# Altium schematic symbol library 3.7 - MSP430系列单片机.SchLib: 80 symbols (part 1 of 2)
Pins are listed as number, name and electrical type; pins without a type are passive.

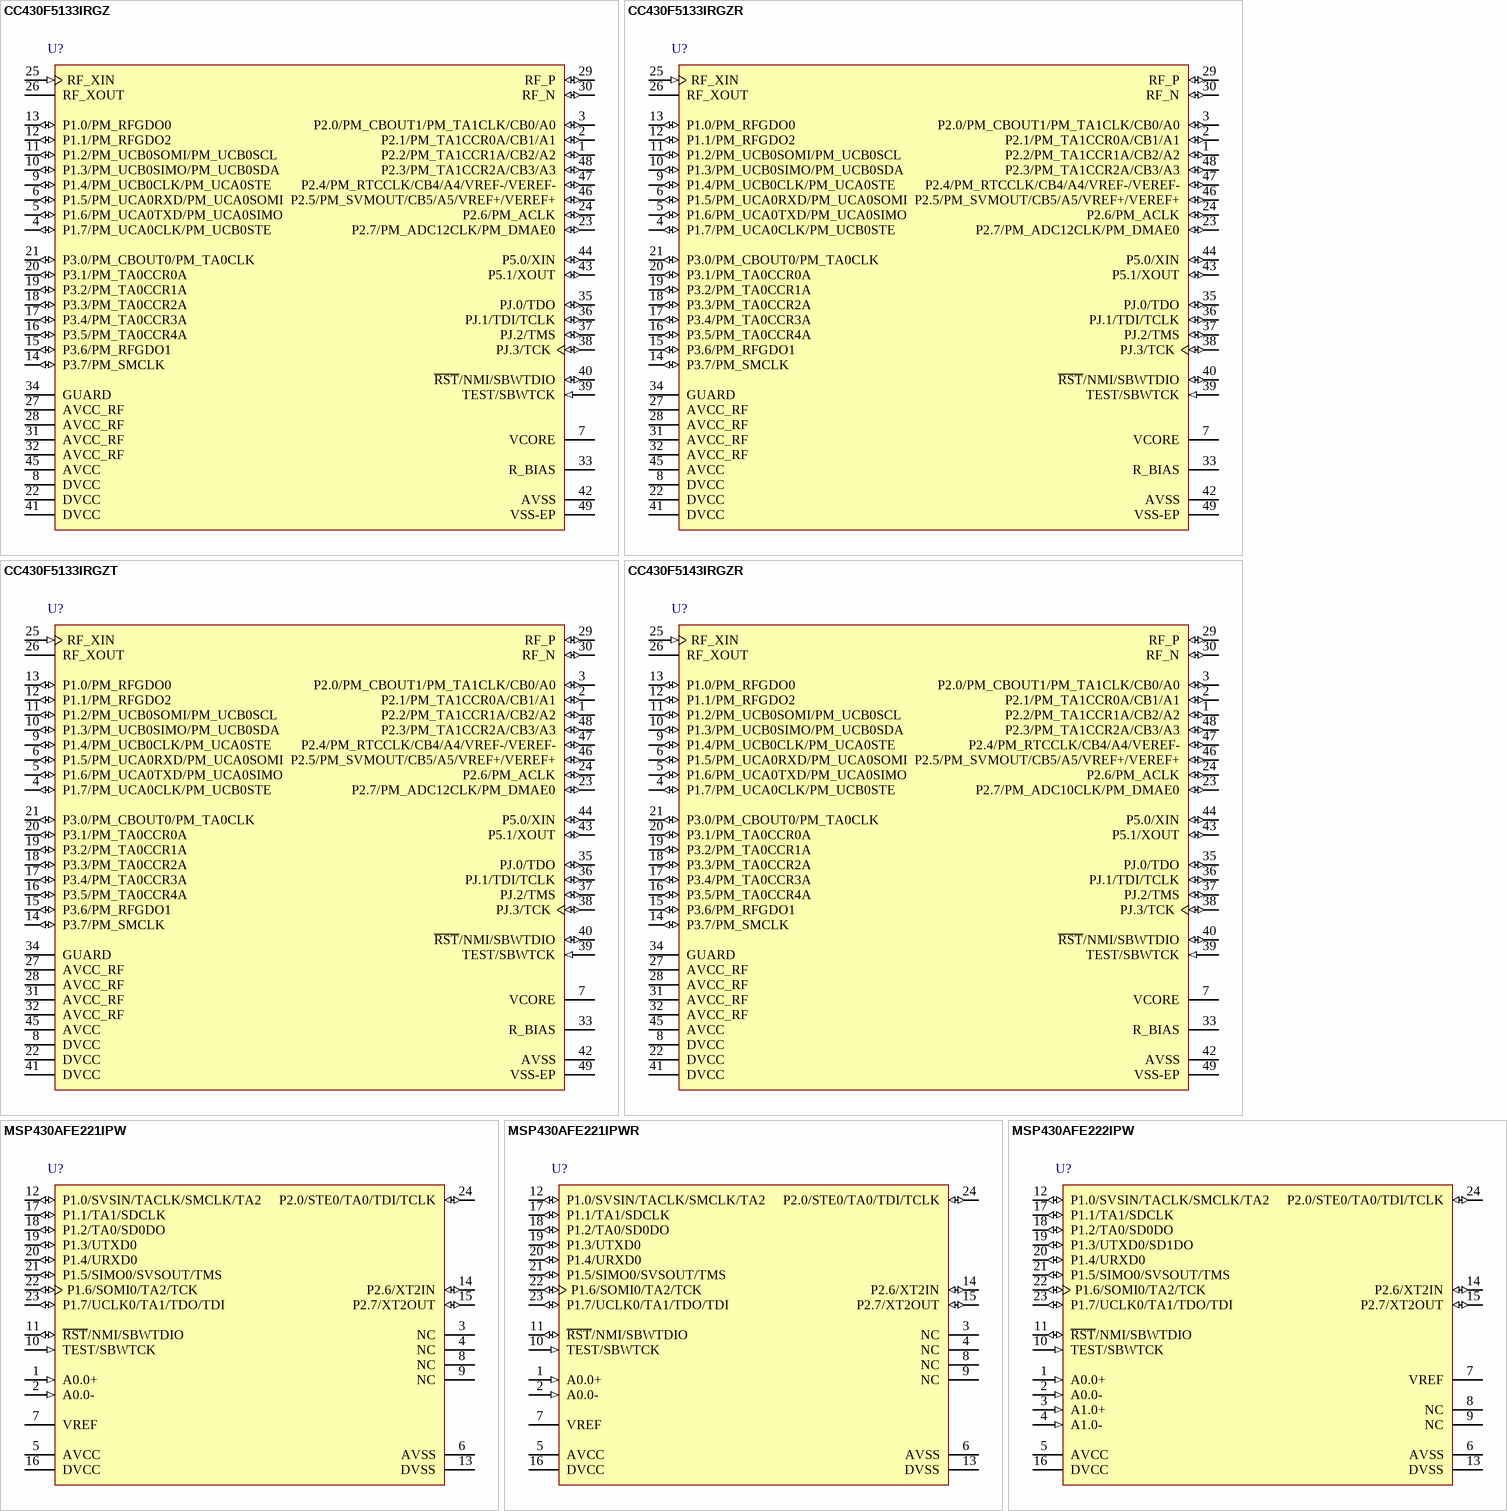
[diagram p0: symbols CC430F5133IRGZ to MSP430AFE222IPW]

## CC430F5133IRGZ
designator U?
20 MHz MSP430 SoC with RF Core with 8 KB Flash, 2048 B SRAM and 30 GPIOs, -40 to 85 degC, 48-pin QFN (RGZ), Green (RoHS & no Sb/Br); 1.库作者: 冰凌猫; 2.库版本: v2.0 (2021.03.30); 3.交流分享: Q群514746572,开源更新,欢迎一起交流学习PCB设计; 4.作者声明: 旨为整合最全库集,欢迎转载,禁止商用！-冰凌猫; 5.备注说明: 该库已二次整合过网上各热销库,基本最全,无需重复搜购安装
footprint QFN48 7X7_N (48脚，长x宽x高：7x7x1mm，脚距：0.5mm)
pins: 1 P2.2/PM_TA1CCR1A/CB2/A2 (io), 2 P2.1/PM_TA1CCR0A/CB1/A1 (io), 3 P2.0/PM_CBOUT1/PM_TA1CLK/CB0/A0 (io), 4 P1.7/PM_UCA0CLK/PM_UCB0STE (io), 5 P1.6/PM_UCA0TXD/PM_UCA0SIMO (io), 6 P1.5/PM_UCA0RXD/PM_UCA0SOMI (io), 7 VCORE "Regulated core power supply", 8 DVCC (power) "Digital power supply", 9 P1.4/PM_UCB0CLK/PM_UCA0STE (io), 10 P1.3/PM_UCB0SIMO/PM_UCB0SDA (io), 11 P1.2/PM_UCB0SOMI/PM_UCB0SCL (io), 12 P1.1/PM_RFGDO2 (io), 13 P1.0/PM_RFGDO0 (io), 14 P3.7/PM_SMCLK (io), 15 P3.6/PM_RFGDO1 (io), 16 P3.5/PM_TA0CCR4A (io), 17 P3.4/PM_TA0CCR3A (io), 18 P3.3/PM_TA0CCR2A (io), 19 P3.2/PM_TA0CCR1A (io), 20 P3.1/PM_TA0CCR0A (io), 21 P3.0/PM_CBOUT0/PM_TA0CLK (io), 22 DVCC (power) "Digital power supply", 23 P2.7/PM_ADC12CLK/PM_DMAE0 (io), 24 P2.6/PM_ACLK (io), 25 RF_XIN (in) "Input terminal for RF crystal oscillator, or external clock input", 26 RF_XOUT "Output terminal for RF crystal oscillator", 27 AVCC_RF (power) "Radio analog power supply", 28 AVCC_RF (power) "Radio analog power supply", 29 RF_P (io) "Positive RF input to LNA in receive mode Positive RF output from PA in transmit mode", 30 RF_N (io) "Negative RF input to LNA in receive mode Negative RF output from PA in transmit mode", 31 AVCC_RF (power) "Radio analog power supply", 32 AVCC_RF (power) "Radio analog power supply", 33 R_BIAS "External bias resistor for radio reference current", 34 GUARD (power) "Power supply connection for digital noise isolation", 35 PJ.0/TDO (io), 36 PJ.1/TDI/TCLK (io), 37 PJ.2/TMS (io), 38 PJ.3/TCK (io), 39 TEST/SBWTCK (in), 40 ~{RST}/NMI/SBWTDIO (io), 41 DVCC (power) "Digital power supply", 42 AVSS (power) "Analog ground supply for ADC12", 43 P5.1/XOUT (io), 44 P5.0/XIN (io), 45 AVCC (power) "Analog power supply", 46 P2.5/PM_SVMOUT/CB5/A5/VREF+/VEREF+ (io), 47 P2.4/PM_RTCCLK/CB4/A4/VREF-/VEREF- (io), 48 P2.3/PM_TA1CCR2A/CB3/A3 (io), 49 VSS-EP (power) "Ground supply The exposed die attach pad must be connected to a solid ground plane as this is the ground connection for the chip."

## CC430F5133IRGZR
designator U?
20 MHz MSP430 SoC with RF Core with 8 KB Flash, 2048 B SRAM and 30 GPIOs, -40 to 85 degC, 48-pin QFN (RGZ), Green (RoHS & no Sb/Br); 1.库作者: 冰凌猫; 2.库版本: v2.0 (2021.03.30); 3.交流分享: Q群514746572,开源更新,欢迎一起交流学习PCB设计; 4.作者声明: 旨为整合最全库集,欢迎转载,禁止商用！-冰凌猫; 5.备注说明: 该库已二次整合过网上各热销库,基本最全,无需重复搜购安装
footprint QFN48 7X7_N (48脚，长x宽x高：7x7x1mm，脚距：0.5mm)
pins: 1 P2.2/PM_TA1CCR1A/CB2/A2 (io), 2 P2.1/PM_TA1CCR0A/CB1/A1 (io), 3 P2.0/PM_CBOUT1/PM_TA1CLK/CB0/A0 (io), 4 P1.7/PM_UCA0CLK/PM_UCB0STE (io), 5 P1.6/PM_UCA0TXD/PM_UCA0SIMO (io), 6 P1.5/PM_UCA0RXD/PM_UCA0SOMI (io), 7 VCORE "Regulated core power supply", 8 DVCC (power) "Digital power supply", 9 P1.4/PM_UCB0CLK/PM_UCA0STE (io), 10 P1.3/PM_UCB0SIMO/PM_UCB0SDA (io), 11 P1.2/PM_UCB0SOMI/PM_UCB0SCL (io), 12 P1.1/PM_RFGDO2 (io), 13 P1.0/PM_RFGDO0 (io), 14 P3.7/PM_SMCLK (io), 15 P3.6/PM_RFGDO1 (io), 16 P3.5/PM_TA0CCR4A (io), 17 P3.4/PM_TA0CCR3A (io), 18 P3.3/PM_TA0CCR2A (io), 19 P3.2/PM_TA0CCR1A (io), 20 P3.1/PM_TA0CCR0A (io), 21 P3.0/PM_CBOUT0/PM_TA0CLK (io), 22 DVCC (power) "Digital power supply", 23 P2.7/PM_ADC12CLK/PM_DMAE0 (io), 24 P2.6/PM_ACLK (io), 25 RF_XIN (in) "Input terminal for RF crystal oscillator, or external clock input", 26 RF_XOUT "Output terminal for RF crystal oscillator", 27 AVCC_RF (power) "Radio analog power supply", 28 AVCC_RF (power) "Radio analog power supply", 29 RF_P (io) "Positive RF input to LNA in receive mode Positive RF output from PA in transmit mode", 30 RF_N (io) "Negative RF input to LNA in receive mode Negative RF output from PA in transmit mode", 31 AVCC_RF (power) "Radio analog power supply", 32 AVCC_RF (power) "Radio analog power supply", 33 R_BIAS "External bias resistor for radio reference current", 34 GUARD (power) "Power supply connection for digital noise isolation", 35 PJ.0/TDO (io), 36 PJ.1/TDI/TCLK (io), 37 PJ.2/TMS (io), 38 PJ.3/TCK (io), 39 TEST/SBWTCK (in), 40 ~{RST}/NMI/SBWTDIO (io), 41 DVCC (power) "Digital power supply", 42 AVSS (power) "Analog ground supply for ADC12", 43 P5.1/XOUT (io), 44 P5.0/XIN (io), 45 AVCC (power) "Analog power supply", 46 P2.5/PM_SVMOUT/CB5/A5/VREF+/VEREF+ (io), 47 P2.4/PM_RTCCLK/CB4/A4/VREF-/VEREF- (io), 48 P2.3/PM_TA1CCR2A/CB3/A3 (io), 49 VSS-EP (power) "Ground supply The exposed die attach pad must be connected to a solid ground plane as this is the ground connection for the chip."

## CC430F5133IRGZT
designator U?
20 MHz MSP430 SoC with RF Core with 8 KB Flash, 2048 B SRAM and 30 GPIOs, -40 to 85 degC, 48-pin QFN (RGZ), Green (RoHS & no Sb/Br); 1.库作者: 冰凌猫; 2.库版本: v2.0 (2021.03.30); 3.交流分享: Q群514746572,开源更新,欢迎一起交流学习PCB设计; 4.作者声明: 旨为整合最全库集,欢迎转载,禁止商用！-冰凌猫; 5.备注说明: 该库已二次整合过网上各热销库,基本最全,无需重复搜购安装
footprint QFN48 7X7_N (48脚，长x宽x高：7x7x1mm，脚距：0.5mm)
pins: 1 P2.2/PM_TA1CCR1A/CB2/A2 (io), 2 P2.1/PM_TA1CCR0A/CB1/A1 (io), 3 P2.0/PM_CBOUT1/PM_TA1CLK/CB0/A0 (io), 4 P1.7/PM_UCA0CLK/PM_UCB0STE (io), 5 P1.6/PM_UCA0TXD/PM_UCA0SIMO (io), 6 P1.5/PM_UCA0RXD/PM_UCA0SOMI (io), 7 VCORE "Regulated core power supply", 8 DVCC (power) "Digital power supply", 9 P1.4/PM_UCB0CLK/PM_UCA0STE (io), 10 P1.3/PM_UCB0SIMO/PM_UCB0SDA (io), 11 P1.2/PM_UCB0SOMI/PM_UCB0SCL (io), 12 P1.1/PM_RFGDO2 (io), 13 P1.0/PM_RFGDO0 (io), 14 P3.7/PM_SMCLK (io), 15 P3.6/PM_RFGDO1 (io), 16 P3.5/PM_TA0CCR4A (io), 17 P3.4/PM_TA0CCR3A (io), 18 P3.3/PM_TA0CCR2A (io), 19 P3.2/PM_TA0CCR1A (io), 20 P3.1/PM_TA0CCR0A (io), 21 P3.0/PM_CBOUT0/PM_TA0CLK (io), 22 DVCC (power) "Digital power supply", 23 P2.7/PM_ADC12CLK/PM_DMAE0 (io), 24 P2.6/PM_ACLK (io), 25 RF_XIN (in) "Input terminal for RF crystal oscillator, or external clock input", 26 RF_XOUT "Output terminal for RF crystal oscillator", 27 AVCC_RF (power) "Radio analog power supply", 28 AVCC_RF (power) "Radio analog power supply", 29 RF_P (io) "Positive RF input to LNA in receive mode Positive RF output from PA in transmit mode", 30 RF_N (io) "Negative RF input to LNA in receive mode Negative RF output from PA in transmit mode", 31 AVCC_RF (power) "Radio analog power supply", 32 AVCC_RF (power) "Radio analog power supply", 33 R_BIAS "External bias resistor for radio reference current", 34 GUARD (power) "Power supply connection for digital noise isolation", 35 PJ.0/TDO (io), 36 PJ.1/TDI/TCLK (io), 37 PJ.2/TMS (io), 38 PJ.3/TCK (io), 39 TEST/SBWTCK (in), 40 ~{RST}/NMI/SBWTDIO (io), 41 DVCC (power) "Digital power supply", 42 AVSS (power) "Analog ground supply for ADC12", 43 P5.1/XOUT (io), 44 P5.0/XIN (io), 45 AVCC (power) "Analog power supply", 46 P2.5/PM_SVMOUT/CB5/A5/VREF+/VEREF+ (io), 47 P2.4/PM_RTCCLK/CB4/A4/VREF-/VEREF- (io), 48 P2.3/PM_TA1CCR2A/CB3/A3 (io), 49 VSS-EP (power) "Ground supply The exposed die attach pad must be connected to a solid ground plane as this is the ground connection for the chip."

## CC430F5143IRGZR
designator U?
20 MHz MSP430 SoC with RF Core with 8 KB Flash, 2048 B SRAM and 30 GPIOs, -40 to 85 degC, 48-pin QFN (RGZ), Green (RoHS & no Sb/Br); 1.库作者: 冰凌猫; 2.库版本: v2.0 (2021.03.30); 3.交流分享: Q群514746572,开源更新,欢迎一起交流学习PCB设计; 4.作者声明: 旨为整合最全库集,欢迎转载,禁止商用！-冰凌猫; 5.备注说明: 该库已二次整合过网上各热销库,基本最全,无需重复搜购安装
footprint QFN48 7X7_N (48脚，长x宽x高：7x7x1mm，脚距：0.5mm)
pins: 1 P2.2/PM_TA1CCR1A/CB2/A2 (io), 2 P2.1/PM_TA1CCR0A/CB1/A1 (io), 3 P2.0/PM_CBOUT1/PM_TA1CLK/CB0/A0 (io), 4 P1.7/PM_UCA0CLK/PM_UCB0STE (io), 5 P1.6/PM_UCA0TXD/PM_UCA0SIMO (io), 6 P1.5/PM_UCA0RXD/PM_UCA0SOMI (io), 7 VCORE "Regulated core power supply", 8 DVCC (power) "Digital power supply", 9 P1.4/PM_UCB0CLK/PM_UCA0STE (io), 10 P1.3/PM_UCB0SIMO/PM_UCB0SDA (io), 11 P1.2/PM_UCB0SOMI/PM_UCB0SCL (io), 12 P1.1/PM_RFGDO2 (io), 13 P1.0/PM_RFGDO0 (io), 14 P3.7/PM_SMCLK (io), 15 P3.6/PM_RFGDO1 (io), 16 P3.5/PM_TA0CCR4A (io), 17 P3.4/PM_TA0CCR3A (io), 18 P3.3/PM_TA0CCR2A (io), 19 P3.2/PM_TA0CCR1A (io), 20 P3.1/PM_TA0CCR0A (io), 21 P3.0/PM_CBOUT0/PM_TA0CLK (io), 22 DVCC (power) "Digital power supply", 23 P2.7/PM_ADC10CLK/PM_DMAE0 (io), 24 P2.6/PM_ACLK (io), 25 RF_XIN (in) "Input terminal for RF crystal oscillator, or external clock input", 26 RF_XOUT "Output terminal for RF crystal oscillator", 27 AVCC_RF (power) "Radio analog power supply", 28 AVCC_RF (power) "Radio analog power supply", 29 RF_P (io) "Positive RF input to LNA in receive mode Positive RF output from PA in transmit mode", 30 RF_N (io) "Negative RF input to LNA in receive mode Negative RF output from PA in transmit mode", 31 AVCC_RF (power) "Radio analog power supply", 32 AVCC_RF (power) "Radio analog power supply", 33 R_BIAS "External bias resistor for radio reference current", 34 GUARD (power) "Power supply connection for digital noise isolation", 35 PJ.0/TDO (io), 36 PJ.1/TDI/TCLK (io), 37 PJ.2/TMS (io), 38 PJ.3/TCK (io), 39 TEST/SBWTCK (in), 40 ~{RST}/NMI/SBWTDIO (io), 41 DVCC (power) "Digital power supply", 42 AVSS (power) "Analog ground supply for ADC10", 43 P5.1/XOUT (io), 44 P5.0/XIN (io), 45 AVCC (power) "Analog power supply", 46 P2.5/PM_SVMOUT/CB5/A5/VREF+/VEREF+ (io), 47 P2.4/PM_RTCCLK/CB4/A4/VEREF- (io), 48 P2.3/PM_TA1CCR2A/CB3/A3 (io), 49 VSS-EP "Ground supply The exposed die attach pad must be connected to a solid ground plane as this is the ground connection for the chip."

## MSP430AFE221IPW
designator U?
12 MHz Mixed Signal Microcontroller with 4 KB Flash, 256 B SRAM and 11 GPIOs, 24-pin SOP (PW), Green (RoHS & no Sb/Br); 1.库作者: 冰凌猫; 2.库版本: v2.0 (2021.03.30); 3.交流分享: Q群514746572,开源更新,欢迎一起交流学习PCB设计; 4.作者声明: 旨为整合最全库集,欢迎转载,禁止商用！-冰凌猫; 5.备注说明: 该库已二次整合过网上各热销库,基本最全,无需重复搜购安装
footprint TSSOP-24 (7.80x4.40x1.00 e=0.65)
pins: 1 A0.0+ (in) "SD24_A positive analog input A0.0", 2 A0.0- (in) "SD24_A negative analog input A0.0", 3 NC "Connect NC pins to analog ground (AVSS)", 4 NC "Connect NC pins to analog ground (AVSS)", 5 AVCC (power) "Analog supply voltage, positive terminal. Must not power up prior to DVCC.", 6 AVSS (power) "Analog supply voltage, negative terminal", 7 VREF "Input for an external reference voltage/ output for internal reference voltage (can be used as mid-voltage)", 8 NC "Connect NC pins to analog ground (AVSS)", 9 NC "Connect NC pins to analog ground (AVSS)", 10 TEST/SBWTCK (in), 11 ~{RST}/NMI/SBWTDIO (io), 12 P1.0/SVSIN/TACLK/SMCLK/TA2 (io), 13 DVSS (power) "Digital supply voltage, negative terminal", 14 P2.6/XT2IN (io), 15 P2.7/XT2OUT (io), 16 DVCC (power) "Digital supply voltage, positive terminal.", 17 P1.1/TA1/SDCLK (io), 18 P1.2/TA0/SD0DO (io), 19 P1.3/UTXD0 (io), 20 P1.4/URXD0 (io), 21 P1.5/SIMO0/SVSOUT/TMS (io), 22 P1.6/SOMI0/TA2/TCK (io), 23 P1.7/UCLK0/TA1/TDO/TDI (io), 24 P2.0/STE0/TA0/TDI/TCLK (io)

## MSP430AFE221IPWR
designator U?
12 MHz Mixed Signal Microcontroller with 4 KB Flash, 256 B SRAM and 11 GPIOs, 24-pin SOP (PW), Green (RoHS & no Sb/Br); 1.库作者: 冰凌猫; 2.库版本: v2.0 (2021.03.30); 3.交流分享: Q群514746572,开源更新,欢迎一起交流学习PCB设计; 4.作者声明: 旨为整合最全库集,欢迎转载,禁止商用！-冰凌猫; 5.备注说明: 该库已二次整合过网上各热销库,基本最全,无需重复搜购安装
footprint TSSOP-24 (7.80x4.40x1.00 e=0.65)
pins: 1 A0.0+ (in) "SD24_A positive analog input A0.0", 2 A0.0- (in) "SD24_A negative analog input A0.0", 3 NC "Connect NC pins to analog ground (AVSS)", 4 NC "Connect NC pins to analog ground (AVSS)", 5 AVCC (power) "Analog supply voltage, positive terminal. Must not power up prior to DVCC.", 6 AVSS (power) "Analog supply voltage, negative terminal", 7 VREF "Input for an external reference voltage/ output for internal reference voltage (can be used as mid-voltage)", 8 NC "Connect NC pins to analog ground (AVSS)", 9 NC "Connect NC pins to analog ground (AVSS)", 10 TEST/SBWTCK (in), 11 ~{RST}/NMI/SBWTDIO (io), 12 P1.0/SVSIN/TACLK/SMCLK/TA2 (io), 13 DVSS (power) "Digital supply voltage, negative terminal", 14 P2.6/XT2IN (io), 15 P2.7/XT2OUT (io), 16 DVCC (power) "Digital supply voltage, positive terminal.", 17 P1.1/TA1/SDCLK (io), 18 P1.2/TA0/SD0DO (io), 19 P1.3/UTXD0 (io), 20 P1.4/URXD0 (io), 21 P1.5/SIMO0/SVSOUT/TMS (io), 22 P1.6/SOMI0/TA2/TCK (io), 23 P1.7/UCLK0/TA1/TDO/TDI (io), 24 P2.0/STE0/TA0/TDI/TCLK (io)

## MSP430AFE222IPW
designator U?
12 MHz Mixed Signal Microcontroller with 4 KB Flash, 256 B SRAM and 11 GPIOs, 24-pin SOP (PW), Green (RoHS & no Sb/Br); 1.库作者: 冰凌猫; 2.库版本: v2.0 (2021.03.30); 3.交流分享: Q群514746572,开源更新,欢迎一起交流学习PCB设计; 4.作者声明: 旨为整合最全库集,欢迎转载,禁止商用！-冰凌猫; 5.备注说明: 该库已二次整合过网上各热销库,基本最全,无需重复搜购安装
footprint TSSOP-24 (7.80x4.40x1.00 e=0.65)
pins: 1 A0.0+ (in) "SD24_A positive analog input A0.0", 2 A0.0- (in) "SD24_A negative analog input A0.0", 3 A1.0+ (in) "SD24_A positive analog input A1.0", 4 A1.0- (in) "SD24_A negative analog input A1.0", 5 AVCC (power) "Analog supply voltage, positive terminal. Must not power up prior to DVCC", 6 AVSS (power) "Analog supply voltage, negative terminal", 7 VREF "Input for an external reference voltage/ output for internal reference voltage (can be used as mid-voltage)", 8 NC, 9 NC, 10 TEST/SBWTCK (in), 11 ~{RST}/NMI/SBWTDIO (io), 12 P1.0/SVSIN/TACLK/SMCLK/TA2 (io), 13 DVSS (power) "Digital supply voltage, negative terminal", 14 P2.6/XT2IN (io), 15 P2.7/XT2OUT (io), 16 DVCC (power) "Digital supply voltage, positive terminal.", 17 P1.1/TA1/SDCLK (io), 18 P1.2/TA0/SD0DO (io), 19 P1.3/UTXD0/SD1DO (io), 20 P1.4/URXD0 (io), 21 P1.5/SIMO0/SVSOUT/TMS (io), 22 P1.6/SOMI0/TA2/TCK (io), 23 P1.7/UCLK0/TA1/TDO/TDI (io), 24 P2.0/STE0/TA0/TDI/TCLK (io)

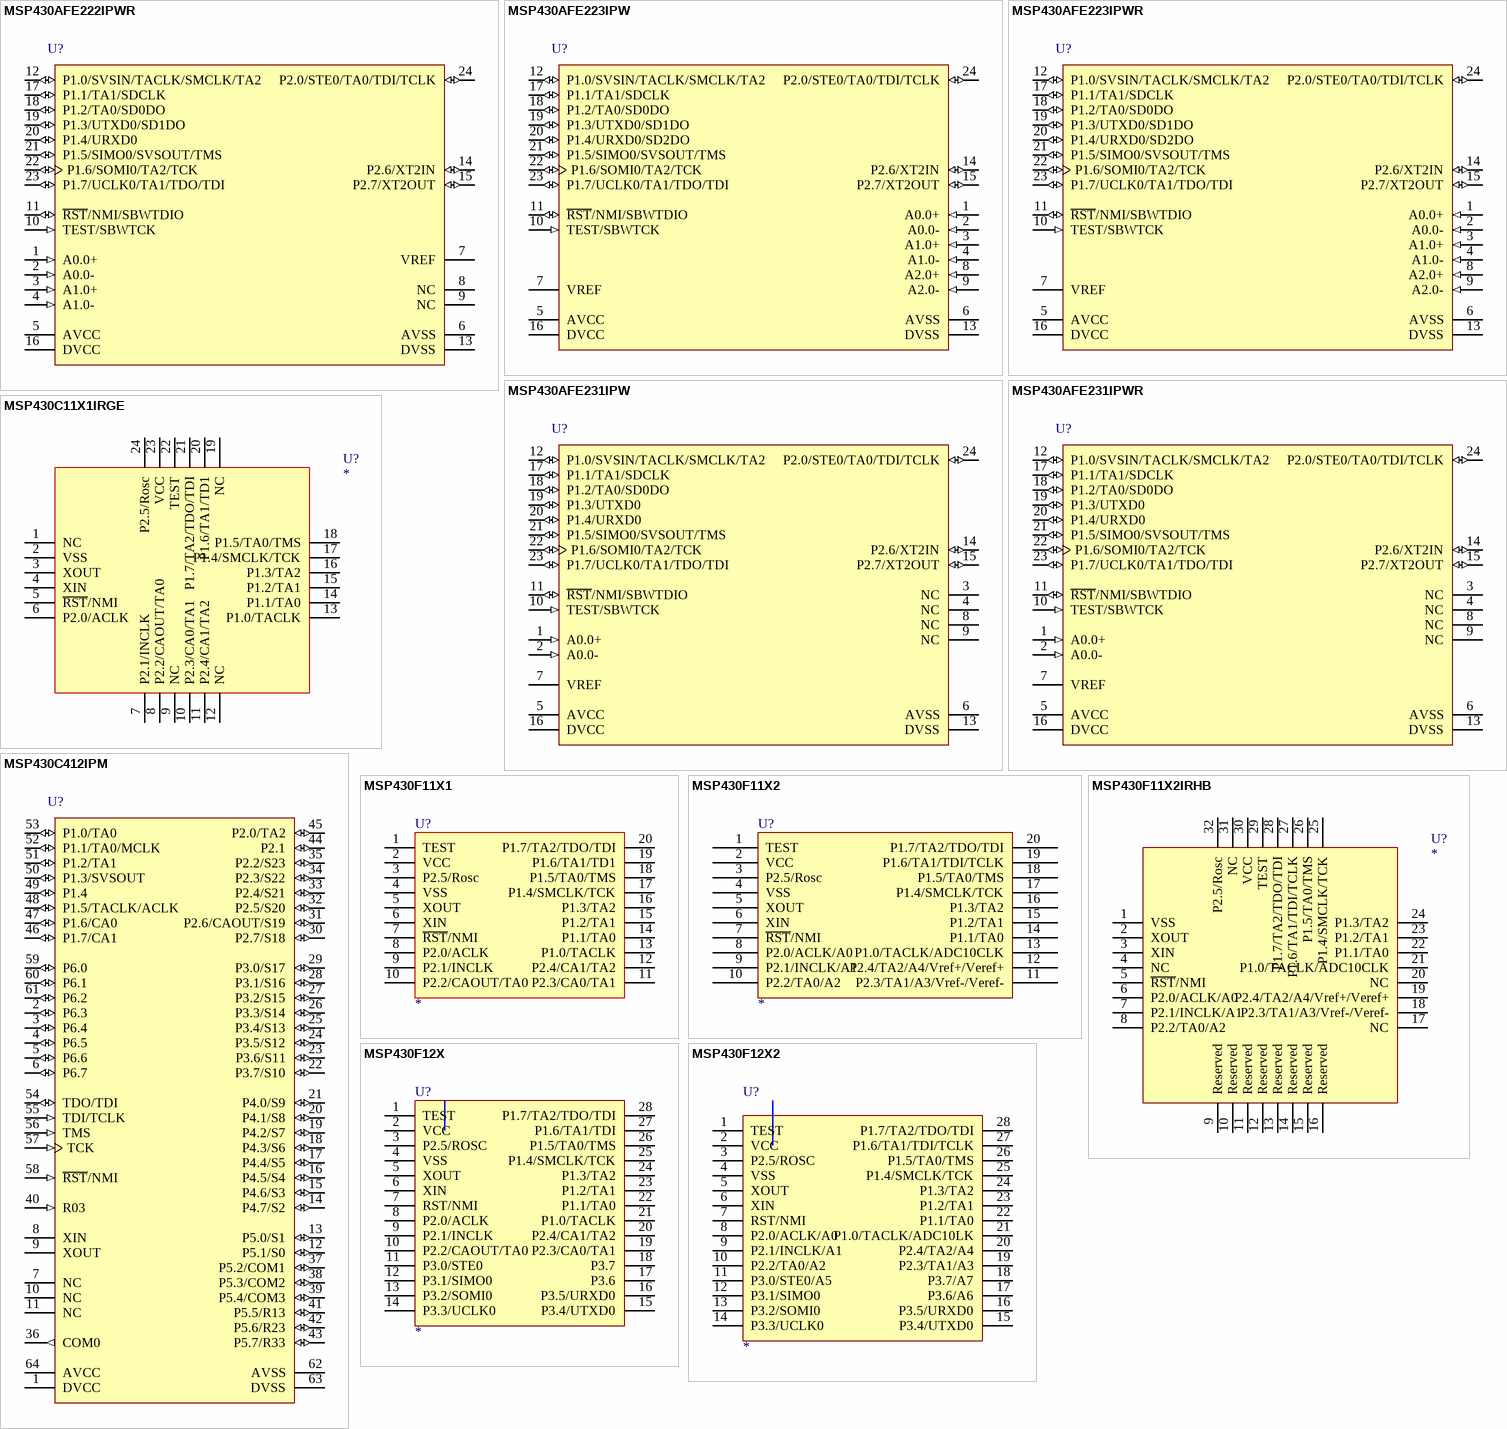
[diagram p1: symbols MSP430AFE222IPWR to MSP430F12X2]

## MSP430AFE222IPWR
designator U?
12 MHz Mixed Signal Microcontroller with 4 KB Flash, 256 B SRAM and 11 GPIOs, 24-pin SOP (PW), Green (RoHS & no Sb/Br); 1.库作者: 冰凌猫; 2.库版本: v2.0 (2021.03.30); 3.交流分享: Q群514746572,开源更新,欢迎一起交流学习PCB设计; 4.作者声明: 旨为整合最全库集,欢迎转载,禁止商用！-冰凌猫; 5.备注说明: 该库已二次整合过网上各热销库,基本最全,无需重复搜购安装
footprint TSSOP-24 (7.80x4.40x1.00 e=0.65)
pins: 1 A0.0+ (in) "SD24_A positive analog input A0.0", 2 A0.0- (in) "SD24_A negative analog input A0.0", 3 A1.0+ (in) "SD24_A positive analog input A1.0", 4 A1.0- (in) "SD24_A negative analog input A1.0", 5 AVCC (power) "Analog supply voltage, positive terminal. Must not power up prior to DVCC", 6 AVSS (power) "Analog supply voltage, negative terminal", 7 VREF "Input for an external reference voltage/ output for internal reference voltage (can be used as mid-voltage)", 8 NC, 9 NC, 10 TEST/SBWTCK (in), 11 ~{RST}/NMI/SBWTDIO (io), 12 P1.0/SVSIN/TACLK/SMCLK/TA2 (io), 13 DVSS (power) "Digital supply voltage, negative terminal", 14 P2.6/XT2IN (io), 15 P2.7/XT2OUT (io), 16 DVCC (power) "Digital supply voltage, positive terminal.", 17 P1.1/TA1/SDCLK (io), 18 P1.2/TA0/SD0DO (io), 19 P1.3/UTXD0/SD1DO (io), 20 P1.4/URXD0 (io), 21 P1.5/SIMO0/SVSOUT/TMS (io), 22 P1.6/SOMI0/TA2/TCK (io), 23 P1.7/UCLK0/TA1/TDO/TDI (io), 24 P2.0/STE0/TA0/TDI/TCLK (io)

## MSP430AFE223IPW
designator U?
12 MHz Mixed Signal Microcontroller with 4 KB Flash, 256 B SRAM and 11 GPIOs, 24-pin SOP (PW), Green (RoHS & no Sb/Br); 1.库作者: 冰凌猫; 2.库版本: v2.0 (2021.03.30); 3.交流分享: Q群514746572,开源更新,欢迎一起交流学习PCB设计; 4.作者声明: 旨为整合最全库集,欢迎转载,禁止商用！-冰凌猫; 5.备注说明: 该库已二次整合过网上各热销库,基本最全,无需重复搜购安装
footprint TSSOP-24 (7.80x4.40x1.00 e=0.65)
pins: 1 A0.0+ (in) "SD24_A positive analog input A0.0", 2 A0.0- (in) "SD24_A negative analog input A0.0", 3 A1.0+ (in) "SD24_A positive analog input A1.0 (not available on MSP430AFE2x1)", 4 A1.0- (in) "SD24_A negative analog input A1.0 (not available on MSP430AFE2x1)", 5 AVCC (power) "Analog supply voltage, positive terminal. Must not power up prior to DVCC.", 6 AVSS (power) "Analog supply voltage, negative terminal", 7 VREF "Input for an external reference voltage/ output for internal reference voltage (can be used as mid-voltage)", 8 A2.0+ (in) "SD24_A positive analog input A2.0 (not available on MSP430AFE2x2 and MSP430AFE2x1)", 9 A2.0- (in) "SD24_A negative analog input A2.0 (not available on MSP430AFE2x2 and MSP430AFE2x1)", 10 TEST/SBWTCK (in) "Digital supply voltage, negative terminal", 11 ~{RST}/NMI/SBWTDIO (io), 12 P1.0/SVSIN/TACLK/SMCLK/TA2 (io), 13 DVSS (power) "Digital supply voltage, negative terminal", 14 P2.6/XT2IN (io), 15 P2.7/XT2OUT (io), 16 DVCC (power) "Digital supply voltage, positive terminal.", 17 P1.1/TA1/SDCLK (io), 18 P1.2/TA0/SD0DO (io), 19 P1.3/UTXD0/SD1DO (io), 20 P1.4/URXD0/SD2DO (io), 21 P1.5/SIMO0/SVSOUT/TMS (io), 22 P1.6/SOMI0/TA2/TCK (io), 23 P1.7/UCLK0/TA1/TDO/TDI (io), 24 P2.0/STE0/TA0/TDI/TCLK (io) "Input for an external reference voltage/ output for internal reference voltage (can be used as mid-voltage)"

## MSP430AFE223IPWR
designator U?
12 MHz Mixed Signal Microcontroller with 4 KB Flash, 256 B SRAM and 11 GPIOs, 24-pin SOP (PW), Green (RoHS & no Sb/Br); 1.库作者: 冰凌猫; 2.库版本: v2.0 (2021.03.30); 3.交流分享: Q群514746572,开源更新,欢迎一起交流学习PCB设计; 4.作者声明: 旨为整合最全库集,欢迎转载,禁止商用！-冰凌猫; 5.备注说明: 该库已二次整合过网上各热销库,基本最全,无需重复搜购安装
footprint TSSOP-24 (7.80x4.40x1.00 e=0.65)
pins: 1 A0.0+ (in) "SD24_A positive analog input A0.0", 2 A0.0- (in) "SD24_A negative analog input A0.0", 3 A1.0+ (in) "SD24_A positive analog input A1.0 (not available on MSP430AFE2x1)", 4 A1.0- (in) "SD24_A negative analog input A1.0 (not available on MSP430AFE2x1)", 5 AVCC (power) "Analog supply voltage, positive terminal. Must not power up prior to DVCC.", 6 AVSS (power) "Analog supply voltage, negative terminal", 7 VREF "Input for an external reference voltage/ output for internal reference voltage (can be used as mid-voltage)", 8 A2.0+ (in) "SD24_A positive analog input A2.0 (not available on MSP430AFE2x2 and MSP430AFE2x1)", 9 A2.0- (in) "SD24_A negative analog input A2.0 (not available on MSP430AFE2x2 and MSP430AFE2x1)", 10 TEST/SBWTCK (in) "Digital supply voltage, negative terminal", 11 ~{RST}/NMI/SBWTDIO (io), 12 P1.0/SVSIN/TACLK/SMCLK/TA2 (io), 13 DVSS (power) "Digital supply voltage, negative terminal", 14 P2.6/XT2IN (io), 15 P2.7/XT2OUT (io), 16 DVCC (power) "Digital supply voltage, positive terminal.", 17 P1.1/TA1/SDCLK (io), 18 P1.2/TA0/SD0DO (io), 19 P1.3/UTXD0/SD1DO (io), 20 P1.4/URXD0/SD2DO (io), 21 P1.5/SIMO0/SVSOUT/TMS (io), 22 P1.6/SOMI0/TA2/TCK (io), 23 P1.7/UCLK0/TA1/TDO/TDI (io), 24 P2.0/STE0/TA0/TDI/TCLK (io) "Input for an external reference voltage/ output for internal reference voltage (can be used as mid-voltage)"

## MSP430AFE231IPW
designator U?
12 MHz Mixed Signal Microcontroller with 8 KB Flash, 512 B SRAM and 11 GPIOs, 24-pin SOP (PW), Green (RoHS & no Sb/Br); 1.库作者: 冰凌猫; 2.库版本: v2.0 (2021.03.30); 3.交流分享: Q群514746572,开源更新,欢迎一起交流学习PCB设计; 4.作者声明: 旨为整合最全库集,欢迎转载,禁止商用！-冰凌猫; 5.备注说明: 该库已二次整合过网上各热销库,基本最全,无需重复搜购安装
footprint TSSOP-24 (7.80x4.40x1.00 e=0.65)
pins: 1 A0.0+ (in) "SD24_A positive analog input A0.0", 2 A0.0- (in) "SD24_A negative analog input A0.0", 3 NC "Connect NC pins to analog ground (AVSS)", 4 NC "Connect NC pins to analog ground (AVSS)", 5 AVCC (power) "Analog supply voltage, positive terminal. Must not power up prior to DVCC.", 6 AVSS (power) "Analog supply voltage, negative terminal", 7 VREF "Input for an external reference voltage/ output for internal reference voltage (can be used as mid-voltage)", 8 NC "Connect NC pins to analog ground (AVSS)", 9 NC "Connect NC pins to analog ground (AVSS)", 10 TEST/SBWTCK (in), 11 ~{RST}/NMI/SBWTDIO (io), 12 P1.0/SVSIN/TACLK/SMCLK/TA2 (io), 13 DVSS (power) "Digital supply voltage, negative terminal", 14 P2.6/XT2IN (io), 15 P2.7/XT2OUT (io), 16 DVCC (power) "Digital supply voltage, positive terminal.", 17 P1.1/TA1/SDCLK (io), 18 P1.2/TA0/SD0DO (io), 19 P1.3/UTXD0 (io), 20 P1.4/URXD0 (io), 21 P1.5/SIMO0/SVSOUT/TMS (io), 22 P1.6/SOMI0/TA2/TCK (io), 23 P1.7/UCLK0/TA1/TDO/TDI (io), 24 P2.0/STE0/TA0/TDI/TCLK (io)

## MSP430AFE231IPWR
designator U?
12 MHz Mixed Signal Microcontroller with 8 KB Flash, 512 B SRAM and 11 GPIOs, 24-pin SOP (PW), Green (RoHS & no Sb/Br); 1.库作者: 冰凌猫; 2.库版本: v2.0 (2021.03.30); 3.交流分享: Q群514746572,开源更新,欢迎一起交流学习PCB设计; 4.作者声明: 旨为整合最全库集,欢迎转载,禁止商用！-冰凌猫; 5.备注说明: 该库已二次整合过网上各热销库,基本最全,无需重复搜购安装
footprint TSSOP-24 (7.80x4.40x1.00 e=0.65)
pins: 1 A0.0+ (in) "SD24_A positive analog input A0.0", 2 A0.0- (in) "SD24_A negative analog input A0.0", 3 NC "Connect NC pins to analog ground (AVSS)", 4 NC "Connect NC pins to analog ground (AVSS)", 5 AVCC (power) "Analog supply voltage, positive terminal. Must not power up prior to DVCC.", 6 AVSS (power) "Analog supply voltage, negative terminal", 7 VREF "Input for an external reference voltage/ output for internal reference voltage (can be used as mid-voltage)", 8 NC "Connect NC pins to analog ground (AVSS)", 9 NC "Connect NC pins to analog ground (AVSS)", 10 TEST/SBWTCK (in), 11 ~{RST}/NMI/SBWTDIO (io), 12 P1.0/SVSIN/TACLK/SMCLK/TA2 (io), 13 DVSS (power) "Digital supply voltage, negative terminal", 14 P2.6/XT2IN (io), 15 P2.7/XT2OUT (io), 16 DVCC (power) "Digital supply voltage, positive terminal.", 17 P1.1/TA1/SDCLK (io), 18 P1.2/TA0/SD0DO (io), 19 P1.3/UTXD0 (io), 20 P1.4/URXD0 (io), 21 P1.5/SIMO0/SVSOUT/TMS (io), 22 P1.6/SOMI0/TA2/TCK (io), 23 P1.7/UCLK0/TA1/TDO/TDI (io), 24 P2.0/STE0/TA0/TDI/TCLK (io)

## MSP430C11X1IRGE
designator U?
footprint QFN24
pins: 1 NC, 2 VSS (power), 3 XOUT (power), 4 XIN (power), 5 ~{RST}/NMI (power), 6 P2.0/ACLK (power), 7 P2.1/INCLK (power), 8 P2.2/CAOUT/TA0 (power), 9 NC, 10 P2.3/CA0/TA1 (power), 11 P2.4/CA1/TA2 (power), 12 NC, 13 P1.0/TACLK (power), 14 P1.1/TA0 (power), 15 P1.2/TA1 (power), 16 P1.3/TA2 (power), 17 P1.4/SMCLK/TCK (power), 18 P1.5/TA0/TMS (power), 19 NC, 20 P1.6/TA1/TD1 (power), 21 P1.7/TA2/TDO/TDI (power), 22 TEST, 23 VCC (power), 24 P2.5/Rosc (power)

## MSP430C412IPM
designator U?
8 MHz Mixed Signal Microcontroller with 4 KB Flash, 256 B SRAM and 48 GPIOs, -40 to 85 degC, 64-pin QFP (PM); 1.库作者: 冰凌猫; 2.库版本: v2.0 (2021.03.30); 3.交流分享: Q群514746572,开源更新,欢迎一起交流学习PCB设计; 4.作者声明: 旨为整合最全库集,欢迎转载,禁止商用！-冰凌猫; 5.备注说明: 该库已二次整合过网上各热销库,基本最全,无需重复搜购安装
footprint QFN64 9x9_N (64脚，长x宽x高：9x9x1mm，脚距：0.5mm  淘宝ID:黄晶宝石)
pins: 1 DVCC (power) "Digital supply voltage, positive terminal. Supplies all parts, except those which are supplied via AVCC.", 2 P6.3 (io) "General-purpose digital I/O", 3 P6.4 (io) "General-purpose digital I/O", 4 P6.5 (io) "General-purpose digital I/O", 5 P6.6 (io) "General-purpose digital I/O", 6 P6.7 (io) "General-purpose digital I/O", 7 NC "Not internally connected. Connection to VSS recommended.", 8 XIN "Input port for crystal oscillator XT1. Standard or watch crystals can be connected.", 9 XOUT "Output terminal of crystal oscillator XT1.", 10 NC "Not internally connected. Connection to VSS recommended.", 11 NC "Not internally connected. Connection to VSS recommended.", 12 P5.1/S0 (io), 13 P5.0/S1 (io), 14 P4.7/S2 (io), 15 P4.6/S3 (io), 16 P4.5/S4 (io), 17 P4.4/S5 (io), 18 P4.3/S6 (io), 19 P4.2/S7 (io), 20 P4.1/S8 (io), 21 P4.0/S9 (io), 22 P3.7/S10 (io), 23 P3.6/S11 (io), 24 P3.5/S12 (io), 25 P3.4/S13 (io), 26 P3.3/S14 (io), 27 P3.2/S15 (io), 28 P3.1/S16 (io), 29 P3.0/S17 (io), 30 P2.7/S18 (io), 31 P2.6/CAOUT/S19 (io), 32 P2.5/S20 (io), 33 P2.4/S21 (io), 34 P2.3/S22 (io), 35 P2.2/S23 (io), 36 COM0 (out) "Common output. COM0-3 are used for LCD backplanes", 37 P5.2/COM1 (io), 38 P5.3/COM2 (io), 39 P5.4/COM3 (io), 40 R03 (in) "Input port of fourth positive (lowest) analog LCD level (V5)", 41 P5.5/R13 (io), 42 P5.6/R23 (io), 43 P5.7/R33 (io), 44 P2.1 (io) "General-purpose digital I/O", 45 P2.0/TA2 (io), 46 P1.7/CA1 (io), 47 P1.6/CA0 (io), 48 P1.5/TACLK/ACLK (io), 49 P1.4 (io) "General-purpose digital I/O", 50 P1.3/SVSOUT (io), 51 P1.2/TA1 (io), 52 P1.1/TA0/MCLK (io), 53 P1.0/TA0 (io), 54 TDO/TDI (io), 55 TDI/TCLK (in), 56 TMS (in) "Test mode select. TMS is used as an input port for device programming and test.", 57 TCK (in) "Test clock. TCK is the clock input port for device programming and test.", 58 ~{RST}/NMI (in), 59 P6.0 (io) "General-purpose digital I/O", 60 P6.1 (io) "General-purpose digital I/O", 61 P6.2 (io) "General-purpose digital I/O", 62 AVSS (power) "Negative terminal that supplies SVS, brownout, oscillator, comparator_A. Needs to be externally connected to DVSS.", 63 DVSS (power) "Digital supply voltage, negative terminal. Supplies all digital parts, except those which are supplied via AVCC/AVSS.", 64 AVCC (power) "Positive terminal that supplies SVS, brownout, oscillator, comparator_A, port 1, and LCD resistive divider circuitry; must not power up prior to DVCC."

## MSP430F11X1
designator U?
footprint R-PDSO-G20(PW)
footprint R-PDSO-G20(DW)
footprint R-PDSO-G20(DGV)
pins: 1 TEST, 2 VCC (power), 3 P2.5/Rosc (power), 4 VSS (power), 5 XOUT (power), 6 XIN (power), 7 ~{RST}/NMI (power), 8 P2.0/ACLK (power), 9 P2.1/INCLK (power), 10 P2.2/CAOUT/TA0 (power), 11 P2.3/CA0/TA1 (power), 12 P2.4/CA1/TA2 (power), 13 P1.0/TACLK (power), 14 P1.1/TA0 (power), 15 P1.2/TA1 (power), 16 P1.3/TA2 (power), 17 P1.4/SMCLK/TCK (power), 18 P1.5/TA0/TMS (power), 19 P1.6/TA1/TD1 (power), 20 P1.7/TA2/TDO/TDI (power)

## MSP430F11X2
designator U?
footprint R-PDSO-G20(PW)
footprint R-PDSO-G20(DW)
footprint R-PDSO-G20(DGV)
pins: 1 TEST, 2 VCC (power), 3 P2.5/Rosc (power), 4 VSS (power), 5 XOUT (power), 6 XIN (power), 7 ~{RST}/NMI (power), 8 P2.0/ACLK/A0 (power), 9 P2.1/INCLK/A1 (power), 10 P2.2/TA0/A2 (power), 11 P2.3/TA1/A3/Vref-/Veref- (power), 12 P2.4/TA2/A4/Vref+/Veref+ (power), 13 P1.0/TACLK/ADC10CLK (power), 14 P1.1/TA0 (power), 15 P1.2/TA1 (power), 16 P1.3/TA2 (power), 17 P1.4/SMCLK/TCK (power), 18 P1.5/TA0/TMS (power), 19 P1.6/TA1/TDI/TCLK (power), 20 P1.7/TA2/TDO/TDI (power)

## MSP430F11X2IRHB
designator U?
footprint QFN32
pins: 1 VSS (power), 2 XOUT (power), 3 XIN (power), 4 NC, 5 ~{RST}/NMI (power), 6 P2.0/ACLK/A0 (power), 7 P2.1/INCLK/A1 (power), 8 P2.2/TA0/A2 (power), 9 Reserved, 10 Reserved, 11 Reserved, 12 Reserved, 13 Reserved, 14 Reserved, 15 Reserved, 16 Reserved, 17 NC, 18 P2.3/TA1/A3/Vref-/Veref- (power), 19 P2.4/TA2/A4/Vref+/Veref+ (power), 20 NC, 21 P1.0/TACLK/ADC10CLK (power), 22 P1.1/TA0 (power), 23 P1.2/TA1 (power), 24 P1.3/TA2 (power), 25 P1.4/SMCLK/TCK (power), 26 P1.5/TA0/TMS (power), 27 P1.6/TA1/TDI/TCLK (power), 28 P1.7/TA2/TDO/TDI (power), 29 TEST, 30 VCC (power), 31 NC, 32 P2.5/Rosc (power)

## MSP430F12X
designator U?
footprint R-PDSO-G28(PW)
footprint R-PDSO-G28(DW)
pins: 1 TEST, 2 VCC, 3 P2.5/ROSC, 4 VSS, 5 XOUT, 6 XIN, 7 RST/NMI, 8 P2.0/ACLK, 9 P2.1/INCLK, 10 P2.2/CAOUT/TA0, 11 P3.0/STE0, 12 P3.1/SIMO0, 13 P3.2/SOMI0, 14 P3.3/UCLK0, 15 P3.4/UTXD0, 16 P3.5/URXD0, 17 P3.6, 18 P3.7, 19 P2.3/CA0/TA1, 20 P2.4/CA1/TA2, 21 P1.0/TACLK, 22 P1.1/TA0, 23 P1.2/TA1, 24 P1.3/TA2, 25 P1.4/SMCLK/TCK, 26 P1.5/TA0/TMS, 27 P1.6/TA1/TDI, 28 P1.7/TA2/TDO/TDI

## MSP430F12X2
designator U?
footprint R-PDSO-G28(PW)
footprint R-PDSO-G28DW)
pins: 1 TEST, 2 VCC, 3 P2.5/ROSC, 4 VSS, 5 XOUT, 6 XIN, 7 RST/NMI, 8 P2.0/ACLK/A0, 9 P2.1/INCLK/A1, 10 P2.2/TA0/A2, 11 P3.0/STE0/A5, 12 P3.1/SIMO0, 13 P3.2/SOMI0, 14 P3.3/UCLK0, 15 P3.4/UTXD0, 16 P3.5/URXD0, 17 P3.6/A6, 18 P3.7/A7, 19 P2.3/TA1/A3, 20 P2.4/TA2/A4, 21 P1.0/TACLK/ADC10LK, 22 P1.1/TA0, 23 P1.2/TA1, 24 P1.3/TA2, 25 P1.4/SMCLK/TCK, 26 P1.5/TA0/TMS, 27 P1.6/TA1/TDI/TCLK, 28 P1.7/TA2/TDO/TDI

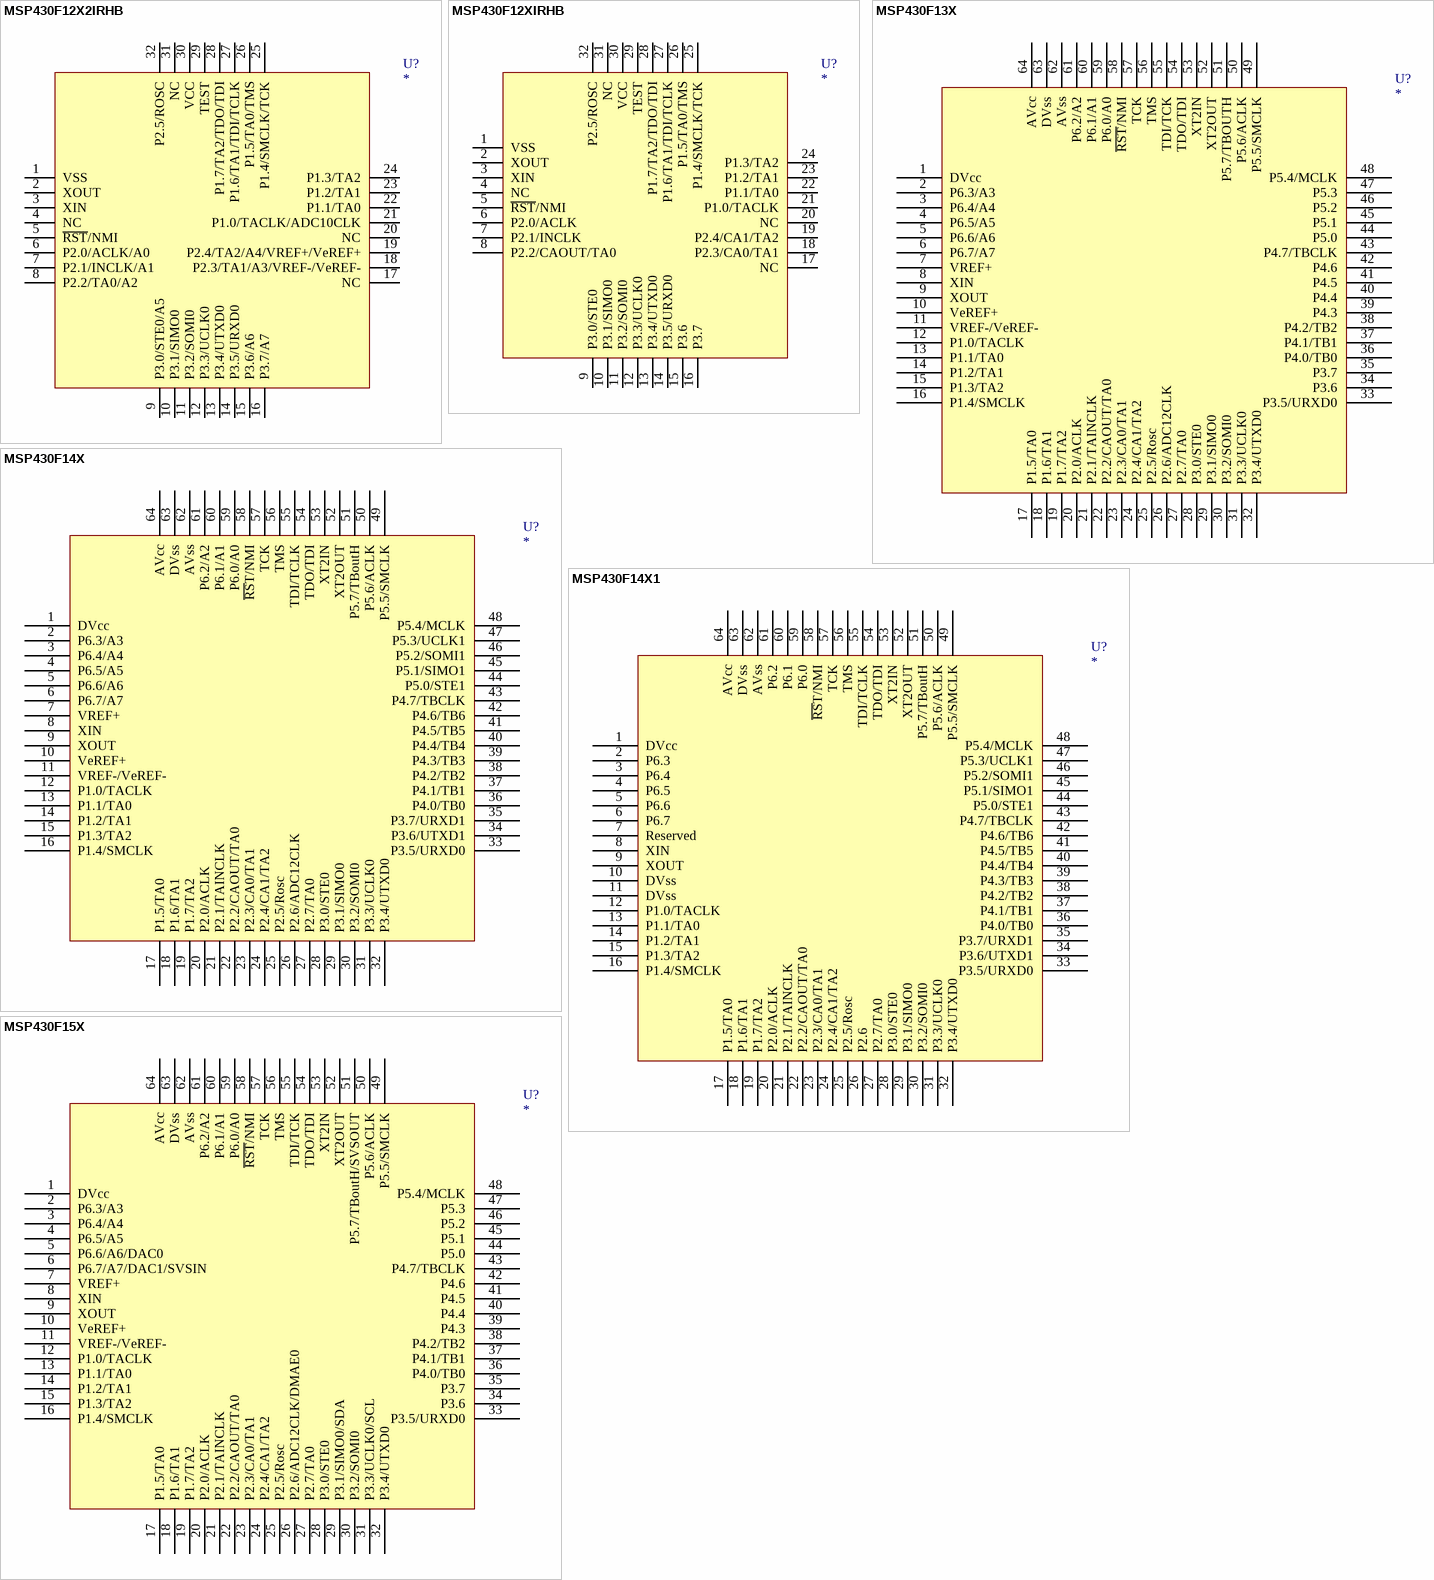
[diagram p2: symbols MSP430F12X2IRHB to MSP430F15X]

## MSP430F12X2IRHB
designator U?
footprint QFN32
pins: 1 VSS (power), 2 XOUT (power), 3 XIN (power), 4 NC (power), 5 ~{RST}/NMI (power), 6 P2.0/ACLK/A0 (power), 7 P2.1/INCLK/A1 (power), 8 P2.2/TA0/A2 (power), 9 P3.0/STE0/A5 (power), 10 P3.1/SIMO0 (power), 11 P3.2/SOMI0 (power), 12 P3.3/UCLK0 (power), 13 P3.4/UTXD0 (power), 14 P3.5/URXD0 (power), 15 P3.6/A6 (power), 16 P3.7/A7 (power), 17 NC (power), 18 P2.3/TA1/A3/VREF-/VeREF- (power), 19 P2.4/TA2/A4/VREF+/VeREF+ (power), 20 NC (power), 21 P1.0/TACLK/ADC10CLK (power), 22 P1.1/TA0 (power), 23 P1.2/TA1 (power), 24 P1.3/TA2 (power), 25 P1.4/SMCLK/TCK (power), 26 P1.5/TA0/TMS (power), 27 P1.6/TA1/TDI/TCLK (power), 28 P1.7/TA2/TDO/TDI (power), 29 TEST (power), 30 VCC (power), 31 NC (power), 32 P2.5/ROSC (power)

## MSP430F12XIRHB
designator U?
footprint QFN32
pins: 1 VSS (power), 2 XOUT (power), 3 XIN (power), 4 NC (power), 5 ~{RST}/NMI (power), 6 P2.0/ACLK (power), 7 P2.1/INCLK (power), 8 P2.2/CAOUT/TA0 (power), 9 P3.0/STE0 (power), 10 P3.1/SIMO0 (power), 11 P3.2/SOMI0 (power), 12 P3.3/UCLK0 (power), 13 P3.4/UTXD0 (power), 14 P3.5/URXD0 (power), 15 P3.6 (power), 16 P3.7 (power), 17 NC (power), 18 P2.3/CA0/TA1 (power), 19 P2.4/CA1/TA2 (power), 20 NC (power), 21 P1.0/TACLK (power), 22 P1.1/TA0 (power), 23 P1.2/TA1 (power), 24 P1.3/TA2 (power), 25 P1.4/SMCLK/TCK (power), 26 P1.5/TA0/TMS (power), 27 P1.6/TA1/TDI/TCLK (power), 28 P1.7/TA2/TDO/TDI (power), 29 TEST (power), 30 VCC (power), 31 NC (power), 32 P2.5/ROSC (power)

## MSP430F13X
designator U?
footprint S-PQFP-G64
footprint QFN64
pins: 1 DVcc (power), 2 P6.3/A3 (power), 3 P6.4/A4 (power), 4 P6.5/A5 (power), 5 P6.6/A6 (power), 6 P6.7/A7 (power), 7 VREF+ (power), 8 XIN (power), 9 XOUT (power), 10 VeREF+ (power), 11 VREF-/VeREF- (power), 12 P1.0/TACLK (power), 13 P1.1/TA0 (power), 14 P1.2/TA1 (power), 15 P1.3/TA2 (power), 16 P1.4/SMCLK (power), 17 P1.5/TA0 (power), 18 P1.6/TA1 (power), 19 P1.7/TA2 (power), 20 P2.0/ACLK (power), 21 P2.1/TAINCLK (power), 22 P2.2/CAOUT/TA0 (power), 23 P2.3/CA0/TA1 (power), 24 P2.4/CA1/TA2 (power), 25 P2.5/Rosc (power), 26 P2.6/ADC12CLK (power), 27 P2.7/TA0 (power), 28 P3.0/STE0 (power), 29 P3.1/SIMO0 (power), 30 P3.2/SOMI0 (power), 31 P3.3/UCLK0 (power), 32 P3.4/UTXD0 (power), 33 P3.5/URXD0 (power), 34 P3.6 (power), 35 P3.7 (power), 36 P4.0/TB0 (power), 37 P4.1/TB1 (power), 38 P4.2/TB2 (power), 39 P4.3 (power), 40 P4.4 (power), 41 P4.5 (power), 42 P4.6 (power), 43 P4.7/TBCLK (power), 44 P5.0 (power), 45 P5.1 (power), 46 P5.2 (power), 47 P5.3 (power), 48 P5.4/MCLK (power), 49 P5.5/SMCLK (power), 50 P5.6/ACLK (power), 51 P5.7/TBOUTH (power), 52 XT2OUT (power), 53 XT2IN (power), 54 TDO/TDI (power), 55 TDI/TCK (power), 56 TMS (power), 57 TCK (power), 58 ~{RST}/NMI (power), 59 P6.0/A0 (power), 60 P6.1/A1 (power), 61 P6.2/A2 (power), 62 AVss (power), 63 DVss (power), 64 AVcc (power)

## MSP430F14X
designator U?
footprint S-PQFP-G64
pins: 1 DVcc (power), 2 P6.3/A3 (power), 3 P6.4/A4 (power), 4 P6.5/A5 (power), 5 P6.6/A6 (power), 6 P6.7/A7 (power), 7 VREF+ (power), 8 XIN (power), 9 XOUT (power), 10 VeREF+ (power), 11 VREF-/VeREF- (power), 12 P1.0/TACLK (power), 13 P1.1/TA0 (power), 14 P1.2/TA1 (power), 15 P1.3/TA2 (power), 16 P1.4/SMCLK (power), 17 P1.5/TA0 (power), 18 P1.6/TA1 (power), 19 P1.7/TA2 (power), 20 P2.0/ACLK (power), 21 P2.1/TAINCLK (power), 22 P2.2/CAOUT/TA0 (power), 23 P2.3/CA0/TA1 (power), 24 P2.4/CA1/TA2 (power), 25 P2.5/Rosc (power), 26 P2.6/ADC12CLK (power), 27 P2.7/TA0 (power), 28 P3.0/STE0 (power), 29 P3.1/SIMO0 (power), 30 P3.2/SOMI0 (power), 31 P3.3/UCLK0 (power), 32 P3.4/UTXD0 (power), 33 P3.5/URXD0 (power), 34 P3.6/UTXD1 (power), 35 P3.7/URXD1 (power), 36 P4.0/TB0 (power), 37 P4.1/TB1 (power), 38 P4.2/TB2 (power), 39 P4.3/TB3 (power), 40 P4.4/TB4 (power), 41 P4.5/TB5 (power), 42 P4.6/TB6 (power), 43 P4.7/TBCLK (power), 44 P5.0/STE1 (power), 45 P5.1/SIMO1 (power), 46 P5.2/SOMI1 (power), 47 P5.3/UCLK1 (power), 48 P5.4/MCLK (power), 49 P5.5/SMCLK (power), 50 P5.6/ACLK (power), 51 P5.7/TBoutH (power), 52 XT2OUT (power), 53 XT2IN (power), 54 TDO/TDI (power), 55 TDI/TCLK (power), 56 TMS (power), 57 TCK (power), 58 ~{RS}T/NMI (power), 59 P6.0/A0 (power), 60 P6.1/A1 (power), 61 P6.2/A2 (power), 62 AVss (power), 63 DVss (power), 64 AVcc (power)

## MSP430F14X1
designator U?
footprint S-PQFP-G64
pins: 1 DVcc (power), 2 P6.3 (power), 3 P6.4 (power), 4 P6.5 (power), 5 P6.6 (power), 6 P6.7 (power), 7 Reserved (power), 8 XIN (power), 9 XOUT (power), 10 DVss (power), 11 DVss (power), 12 P1.0/TACLK (power), 13 P1.1/TA0 (power), 14 P1.2/TA1 (power), 15 P1.3/TA2 (power), 16 P1.4/SMCLK (power), 17 P1.5/TA0 (power), 18 P1.6/TA1 (power), 19 P1.7/TA2 (power), 20 P2.0/ACLK (power), 21 P2.1/TAINCLK (power), 22 P2.2/CAOUT/TA0 (power), 23 P2.3/CA0/TA1 (power), 24 P2.4/CA1/TA2 (power), 25 P2.5/Rosc (power), 26 P2.6 (power), 27 P2.7/TA0 (power), 28 P3.0/STE0 (power), 29 P3.1/SIMO0 (power), 30 P3.2/SOMI0 (power), 31 P3.3/UCLK0 (power), 32 P3.4/UTXD0 (power), 33 P3.5/URXD0 (power), 34 P3.6/UTXD1 (power), 35 P3.7/URXD1 (power), 36 P4.0/TB0 (power), 37 P4.1/TB1 (power), 38 P4.2/TB2 (power), 39 P4.3/TB3 (power), 40 P4.4/TB4 (power), 41 P4.5/TB5 (power), 42 P4.6/TB6 (power), 43 P4.7/TBCLK (power), 44 P5.0/STE1 (power), 45 P5.1/SIMO1 (power), 46 P5.2/SOMI1 (power), 47 P5.3/UCLK1 (power), 48 P5.4/MCLK (power), 49 P5.5/SMCLK (power), 50 P5.6/ACLK (power), 51 P5.7/TBoutH (power), 52 XT2OUT (power), 53 XT2IN (power), 54 TDO/TDI (power), 55 TDI/TCLK (power), 56 TMS (power), 57 TCK (power), 58 ~{RS}T/NMI (power), 59 P6.0 (power), 60 P6.1 (power), 61 P6.2 (power), 62 AVss (power), 63 DVss (power), 64 AVcc (power)

## MSP430F15X
designator U?
footprint S-PQFP-G64
footprint QFN64
pins: 1 DVcc (power), 2 P6.3/A3 (power), 3 P6.4/A4 (power), 4 P6.5/A5 (power), 5 P6.6/A6/DAC0 (power), 6 P6.7/A7/DAC1/SVSIN (power), 7 VREF+ (power), 8 XIN (power), 9 XOUT (power), 10 VeREF+ (power), 11 VREF-/VeREF- (power), 12 P1.0/TACLK (power), 13 P1.1/TA0 (power), 14 P1.2/TA1 (power), 15 P1.3/TA2 (power), 16 P1.4/SMCLK (power), 17 P1.5/TA0 (power), 18 P1.6/TA1 (power), 19 P1.7/TA2 (power), 20 P2.0/ACLK (power), 21 P2.1/TAINCLK (power), 22 P2.2/CAOUT/TA0 (power), 23 P2.3/CA0/TA1 (power), 24 P2.4/CA1/TA2 (power), 25 P2.5/Rosc (power), 26 P2.6/ADC12CLK/DMAE0 (power), 27 P2.7/TA0 (power), 28 P3.0/STE0 (power), 29 P3.1/SIMO0/SDA (power), 30 P3.2/SOMI0 (power), 31 P3.3/UCLK0/SCL (power), 32 P3.4/UTXD0 (power), 33 P3.5/URXD0 (power), 34 P3.6 (power), 35 P3.7 (power), 36 P4.0/TB0 (power), 37 P4.1/TB1 (power), 38 P4.2/TB2 (power), 39 P4.3 (power), 40 P4.4 (power), 41 P4.5 (power), 42 P4.6 (power), 43 P4.7/TBCLK (power), 44 P5.0 (power), 45 P5.1 (power), 46 P5.2 (power), 47 P5.3 (power), 48 P5.4/MCLK (power), 49 P5.5/SMCLK (power), 50 P5.6/ACLK (power), 51 P5.7/TBoutH/SVSOUT (power), 52 XT2OUT (power), 53 XT2IN (power), 54 TDO/TDI (power), 55 TDI/TCK (power), 56 TMS (power), 57 TCK (power), 58 ~{RST}/NMI (power), 59 P6.0/A0 (power), 60 P6.1/A1 (power), 61 P6.2/A2 (power), 62 AVss (power), 63 DVss (power), 64 AVcc (power)

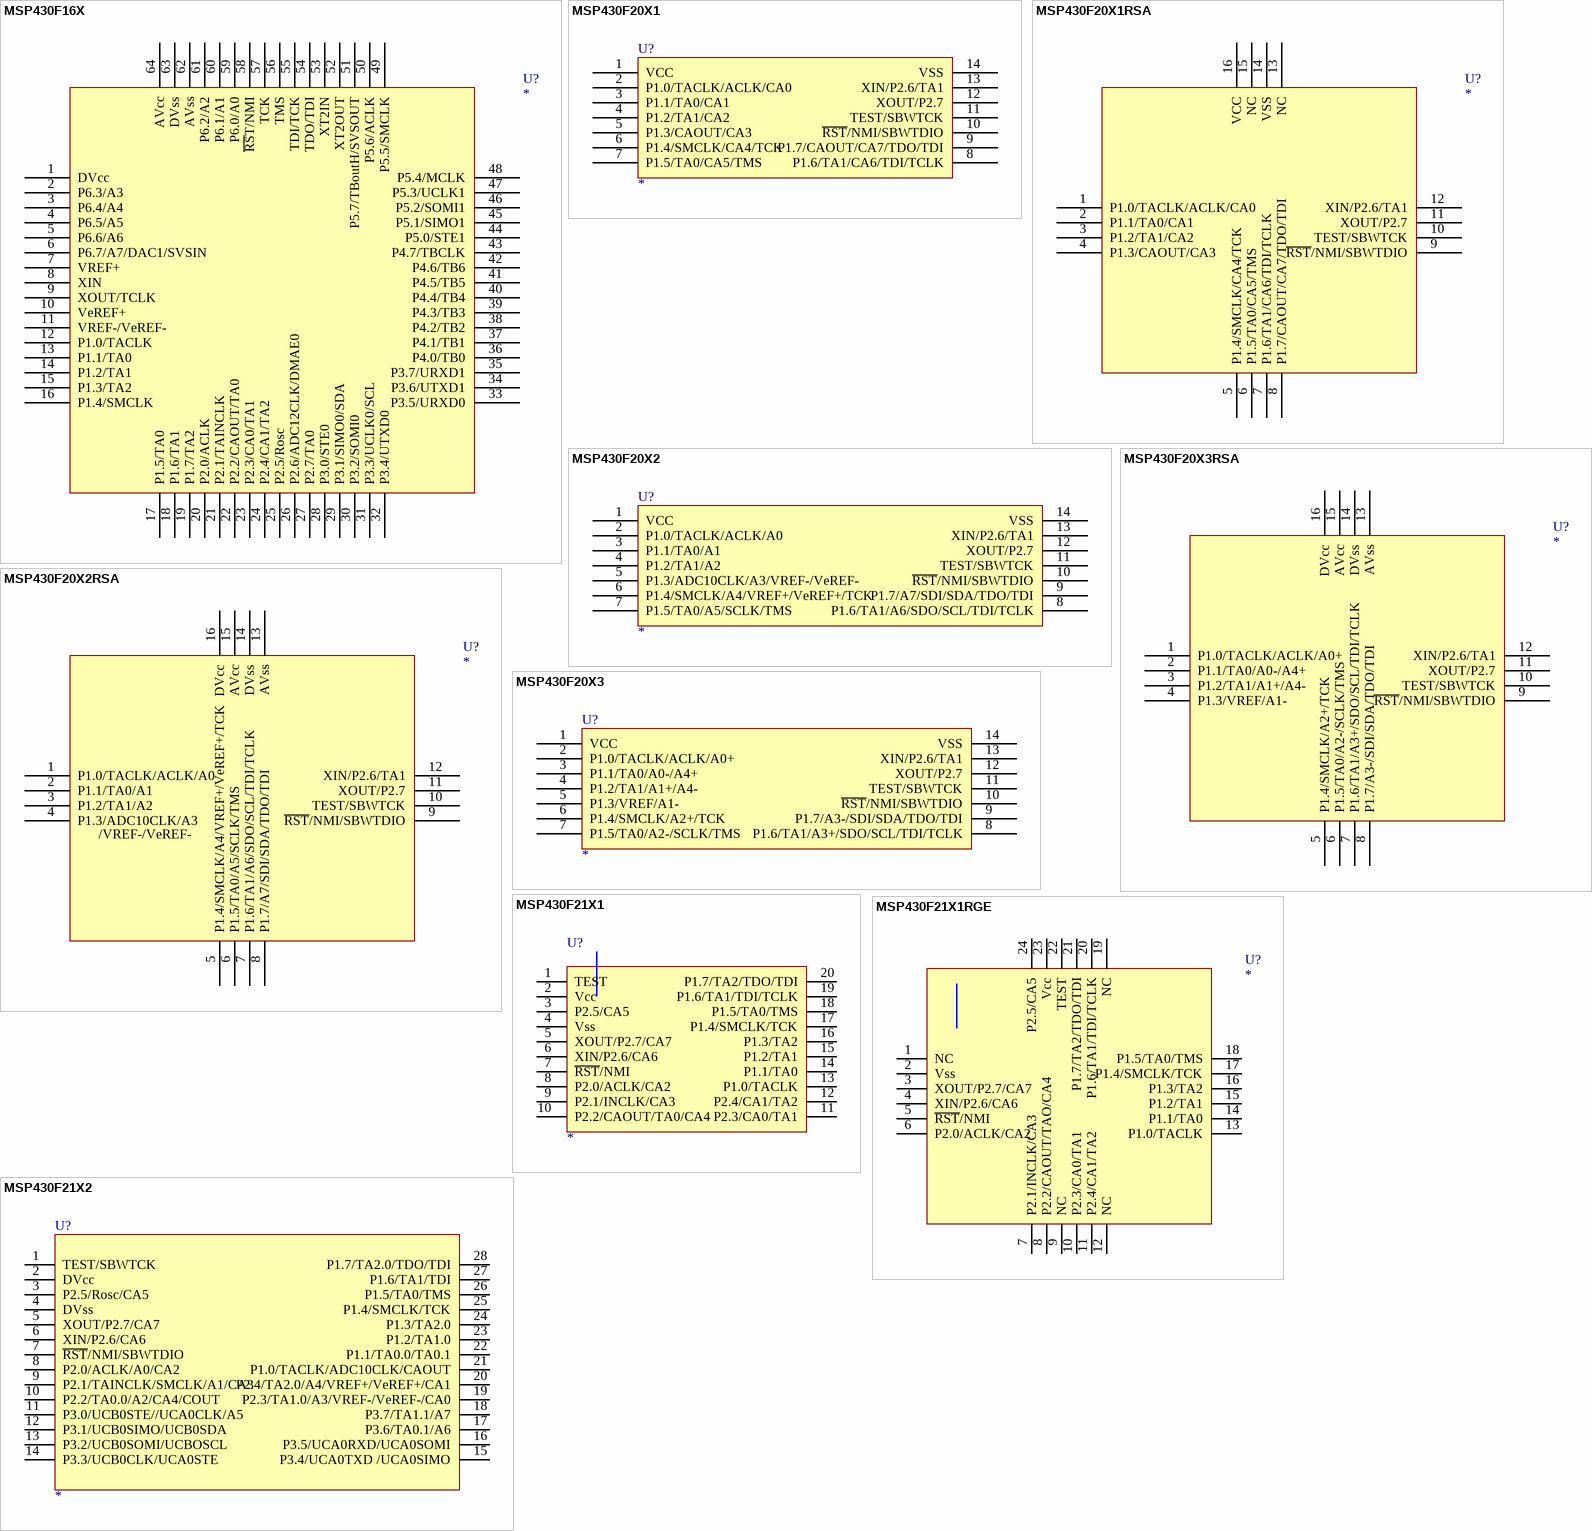
[diagram p3: symbols MSP430F16X to MSP430F21X2]

## MSP430F16X
designator U?
footprint S-PQFP-G64
footprint QFN64
pins: 1 DVcc (power), 2 P6.3/A3 (power), 3 P6.4/A4 (power), 4 P6.5/A5 (power), 5 P6.6/A6 (power), 6 P6.7/A7/DAC1/SVSIN (power), 7 VREF+ (power), 8 XIN (power), 9 XOUT/TCLK (power), 10 VeREF+ (power), 11 VREF-/VeREF- (power), 12 P1.0/TACLK (power), 13 P1.1/TA0 (power), 14 P1.2/TA1 (power), 15 P1.3/TA2 (power), 16 P1.4/SMCLK (power), 17 P1.5/TA0 (power), 18 P1.6/TA1 (power), 19 P1.7/TA2 (power), 20 P2.0/ACLK (power), 21 P2.1/TAINCLK (power), 22 P2.2/CAOUT/TA0 (power), 23 P2.3/CA0/TA1 (power), 24 P2.4/CA1/TA2 (power), 25 P2.5/Rosc (power), 26 P2.6/ADC12CLK/DMAE0 (power), 27 P2.7/TA0 (power), 28 P3.0/STE0 (power), 29 P3.1/SIMO0/SDA (power), 30 P3.2/SOMI0 (power), 31 P3.3/UCLK0/SCL (power), 32 P3.4/UTXD0 (power), 33 P3.5/URXD0 (power), 34 P3.6/UTXD1 (power), 35 P3.7/URXD1 (power), 36 P4.0/TB0 (power), 37 P4.1/TB1 (power), 38 P4.2/TB2 (power), 39 P4.3/TB3 (power), 40 P4.4/TB4 (power), 41 P4.5/TB5 (power), 42 P4.6/TB6 (power), 43 P4.7/TBCLK (power), 44 P5.0/STE1 (power), 45 P5.1/SIMO1 (power), 46 P5.2/SOMI1 (power), 47 P5.3/UCLK1 (power), 48 P5.4/MCLK (power), 49 P5.5/SMCLK (power), 50 P5.6/ACLK (power), 51 P5.7/TBoutH/SVSOUT (power), 52 XT2OUT (power), 53 XT2IN (power), 54 TDO/TDI (power), 55 TDI/TCK (power), 56 TMS (power), 57 TCK (power), 58 ~{RS}T/NMI (power), 59 P6.0/A0 (power), 60 P6.1/A1 (power), 61 P6.2/A2 (power), 62 AVss (power), 63 DVss (power), 64 AVcc (power)

## MSP430F20X1
designator U?
footprint R-PDSO-G14(PW)
pins: 1 VCC, 2 P1.0/TACLK/ACLK/CA0 (power), 3 P1.1/TA0/CA1 (power), 4 P1.2/TA1/CA2 (power), 5 P1.3/CAOUT/CA3 (power), 6 P1.4/SMCLK/CA4/TCK (power), 7 P1.5/TA0/CA5/TMS (power), 8 P1.6/TA1/CA6/TDI/TCLK (power), 9 P1.7/CAOUT/CA7/TDO/TDI (power), 10 ~{RST}/NMI/SBWTDIO (power), 11 TEST/SBWTCK (power), 12 XOUT/P2.7 (power), 13 XIN/P2.6/TA1 (power), 14 VSS (power)

## MSP430F20X1RSA
designator U?
footprint QFN16
pins: 1 P1.0/TACLK/ACLK/CA0 (power), 2 P1.1/TA0/CA1 (power), 3 P1.2/TA1/CA2 (power), 4 P1.3/CAOUT/CA3 (power), 5 P1.4/SMCLK/CA4/TCK (power), 6 P1.5/TA0/CA5/TMS (power), 7 P1.6/TA1/CA6/TDI/TCLK (power), 8 P1.7/CAOUT/CA7/TDO/TDI (power), 9 ~{RST}/NMI/SBWTDIO (power), 10 TEST/SBWTCK (power), 11 XOUT/P2.7 (power), 12 XIN/P2.6/TA1 (power), 13 NC, 14 VSS (power), 15 NC, 16 VCC

## MSP430F20X2
designator U?
footprint R-PDSO-G14(PW)
pins: 1 VCC, 2 P1.0/TACLK/ACLK/A0 (power), 3 P1.1/TA0/A1 (power), 4 P1.2/TA1/A2 (power), 5 P1.3/ADC10CLK/A3/VREF-/VeREF- (power), 6 P1.4/SMCLK/A4/VREF+/VeREF+/TCK (power), 7 P1.5/TA0/A5/SCLK/TMS (power), 8 P1.6/TA1/A6/SDO/SCL/TDI/TCLK (power), 9 P1.7/A7/SDI/SDA/TDO/TDI (power), 10 ~{RST}/NMI/SBWTDIO (power), 11 TEST/SBWTCK (power), 12 XOUT/P2.7 (power), 13 XIN/P2.6/TA1 (power), 14 VSS (power)

## MSP430F20X2RSA
designator U?
footprint QFN16
pins: 1 P1.0/TACLK/ACLK/A0 (power), 2 P1.1/TA0/A1 (power), 3 P1.2/TA1/A2 (power), 4 P1.3/ADC10CLK/A3 (power), 5 P1.4/SMCLK/A4/VREF+/VeREF+/TCK (power), 6 P1.5/TA0/A5/SCLK/TMS (power), 7 P1.6/TA1/A6/SDO/SCL/TDI/TCLK (power), 8 P1.7/A7/SDI/SDA/TDO/TDI (power), 9 ~{RST}/NMI/SBWTDIO (power), 10 TEST/SBWTCK (power), 11 XOUT/P2.7 (power), 12 XIN/P2.6/TA1 (power), 13 AVss, 14 DVss (power), 15 AVcc, 16 DVcc
text: /VREF-/VeREF-

## MSP430F20X3
designator U?
footprint R-PDSO-G14(PW)
pins: 1 VCC, 2 P1.0/TACLK/ACLK/A0+ (power), 3 P1.1/TA0/A0-/A4+ (power), 4 P1.2/TA1/A1+/A4- (power), 5 P1.3/VREF/A1- (power), 6 P1.4/SMCLK/A2+/TCK (power), 7 P1.5/TA0/A2-/SCLK/TMS (power), 8 P1.6/TA1/A3+/SDO/SCL/TDI/TCLK (power), 9 P1.7/A3-/SDI/SDA/TDO/TDI (power), 10 ~{RST}/NMI/SBWTDIO (power), 11 TEST/SBWTCK (power), 12 XOUT/P2.7 (power), 13 XIN/P2.6/TA1 (power), 14 VSS (power)

## MSP430F20X3RSA
designator U?
footprint QFN16
pins: 1 P1.0/TACLK/ACLK/A0+ (power), 2 P1.1/TA0/A0-/A4+ (power), 3 P1.2/TA1/A1+/A4- (power), 4 P1.3/VREF/A1- (power), 5 P1.4/SMCLK/A2+/TCK (power), 6 P1.5/TA0/A2-/SCLK/TMS (power), 7 P1.6/TA1/A3+/SDO/SCL/TDI/TCLK (power), 8 P1.7/A3-/SDI/SDA/TDO/TDI (power), 9 ~{RST}/NMI/SBWTDIO (power), 10 TEST/SBWTCK (power), 11 XOUT/P2.7 (power), 12 XIN/P2.6/TA1 (power), 13 AVss, 14 DVss (power), 15 AVcc, 16 DVcc

## MSP430F21X1
designator U?
footprint R-PDSO-G20(PW)
footprint R-PDSO-G20(DW)
footprint R-PDSO-G20(DGV)
pins: 1 TEST, 2 Vcc, 3 P2.5/CA5, 4 Vss, 5 XOUT/P2.7/CA7, 6 XIN/P2.6/CA6, 7 ~{RST}/NMI, 8 P2.0/ACLK/CA2, 9 P2.1/INCLK/CA3, 10 P2.2/CAOUT/TA0/CA4, 11 P2.3/CA0/TA1, 12 P2.4/CA1/TA2, 13 P1.0/TACLK, 14 P1.1/TA0, 15 P1.2/TA1, 16 P1.3/TA2, 17 P1.4/SMCLK/TCK, 18 P1.5/TA0/TMS, 19 P1.6/TA1/TDI/TCLK, 20 P1.7/TA2/TDO/TDI

## MSP430F21X1RGE
designator U?
footprint QFN24
pins: 1 NC, 2 Vss, 3 XOUT/P2.7/CA7, 4 XIN/P2.6/CA6, 5 ~{RST}/NMI, 6 P2.0/ACLK/CA2, 7 P2.1/INCLK/CA3, 8 P2.2/CAOUT/TAO/CA4, 9 NC, 10 P2.3/CA0/TA1, 11 P2.4/CA1/TA2, 12 NC, 13 P1.0/TACLK, 14 P1.1/TA0, 15 P1.2/TA1, 16 P1.3/TA2, 17 P1.4/SMCLK/TCK, 18 P1.5/TA0/TMS, 19 NC, 20 P1.6/TA1/TDI/TCLK, 21 P1.7/TA2/TDO/TDI, 22 TEST, 23 Vcc, 24 P2.5/CA5

## MSP430F21X2
designator U?
footprint R-PDSO-G28(PW)
pins: 1 TEST/SBWTCK, 2 DVcc, 3 P2.5/Rosc/CA5, 4 DVss (power), 5 XOUT/P2.7/CA7 (power), 6 XIN/P2.6/CA6 (power), 7 ~{RST}/NMI/SBWTDIO (power), 8 P2.0/ACLK/A0/CA2 (power), 9 P2.1/TAINCLK/SMCLK/A1/CA3 (power), 10 P2.2/TA0.0/A2/CA4/COUT (power), 11 P3.0/UCB0STE//UCA0CLK/A5 (power), 12 P3.1/UCB0SIMO/UCB0SDA (power), 13 P3.2/UCB0SOMI/UCBOSCL (power), 14 P3.3/UCB0CLK/UCA0STE (power), 15 P3.4/UCA0TXD /UCA0SIMO (power), 16 P3.5/UCA0RXD/UCA0SOMI (power), 17 P3.6/TA0.1/A6 (power), 18 P3.7/TA1.1/A7 (power), 19 P2.3/TA1.0/A3/VREF-/VeREF-/CA0 (power), 20 P2.4/TA2.0/A4/VREF+/VeREF+/CA1 (power), 21 P1.0/TACLK/ADC10CLK/CAOUT (power), 22 P1.1/TA0.0/TA0.1 (power), 23 P1.2/TA1.0 (power), 24 P1.3/TA2.0 (power), 25 P1.4/SMCLK/TCK, 26 P1.5/TA0/TMS, 27 P1.6/TA1/TDI, 28 P1.7/TA2.0/TDO/TDI

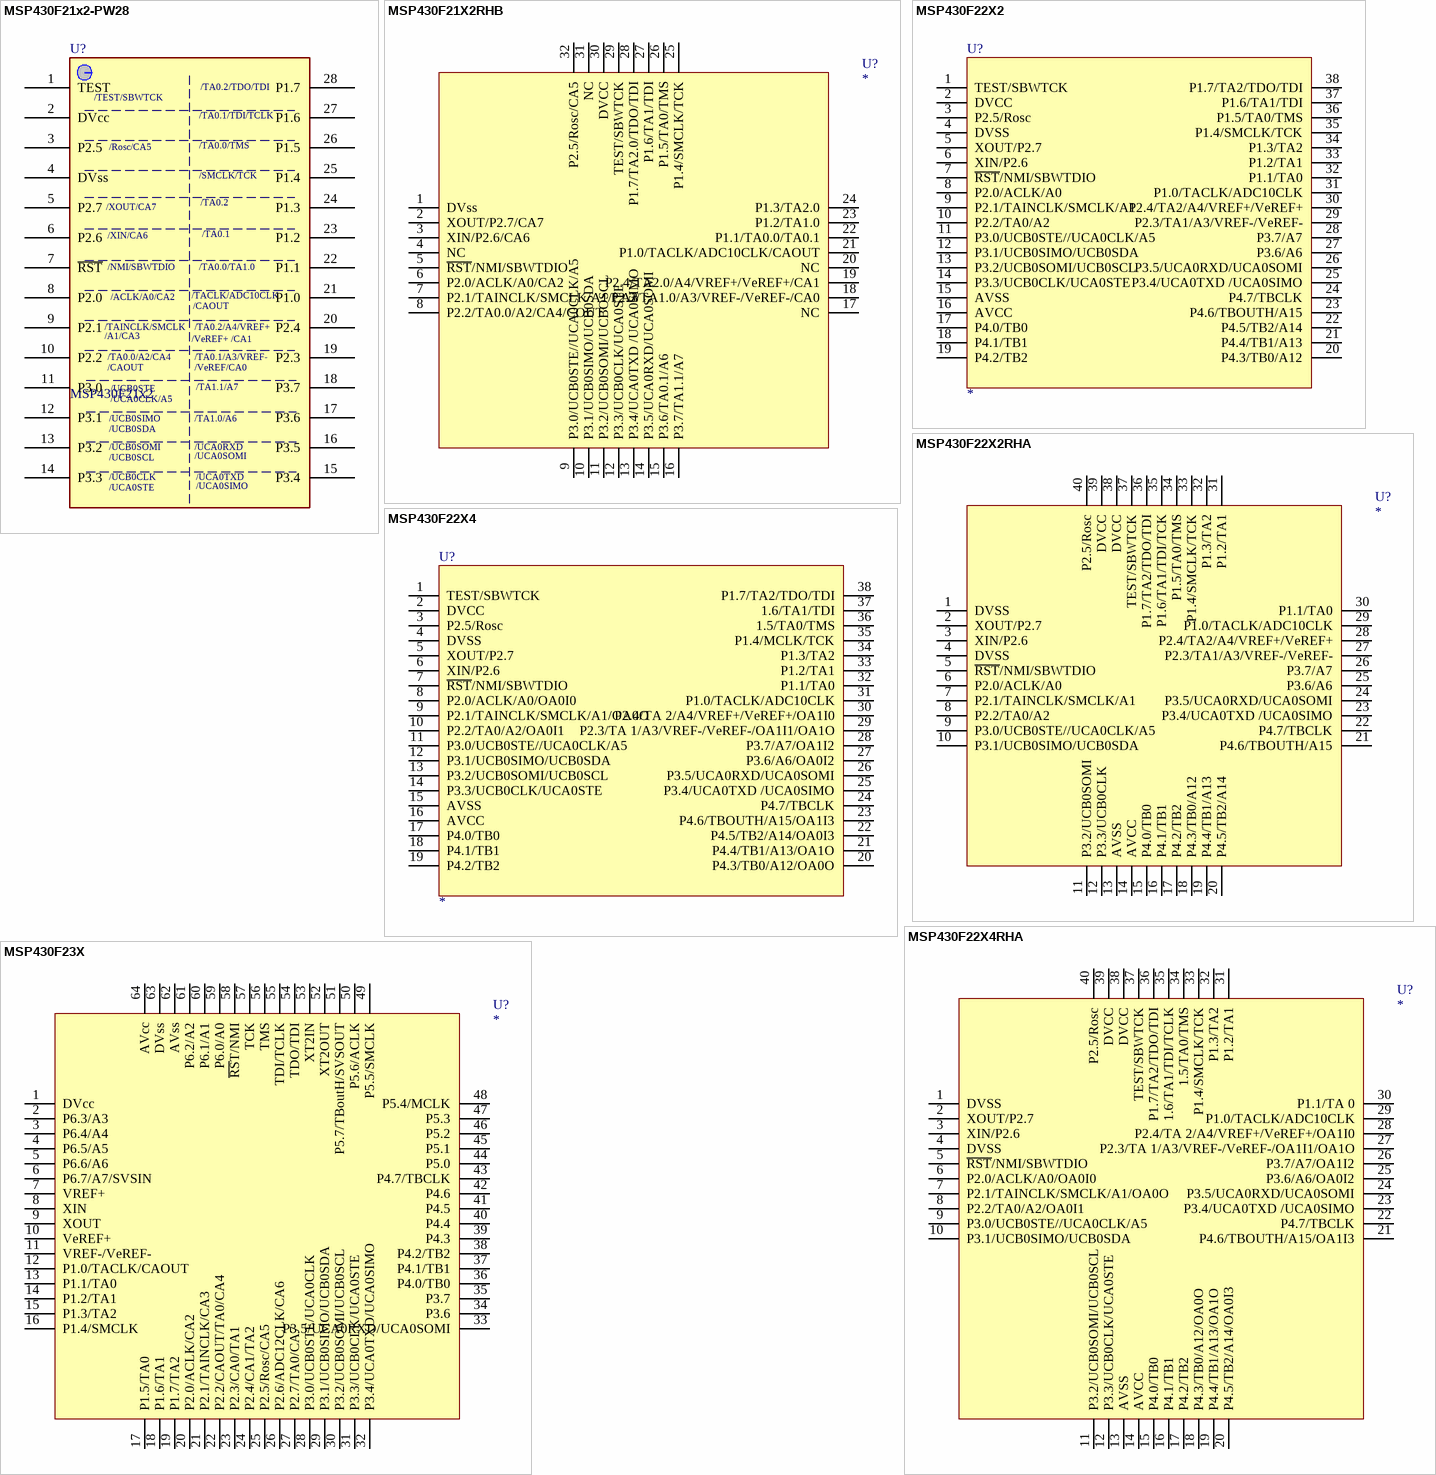
[diagram p4: symbols MSP430F21x2-PW28 to MSP430F23X]

## MSP430F21x2-PW28
designator U?, comment MSP430F21x2
MSP430F21x2-PW28
footprint TSSOP-28 (9.8*6.4*1mm（长宽高）)
pins: 1 TEST, 2 DVcc, 3 P2.5, 4 DVss, 5 P2.7, 6 P2.6, 7 ~{RST}, 8 P2.0, 9 P2.1, 10 P2.2, 11 P3.0, 12 P3.1, 13 P3.2, 14 P3.3, 15 P3.4, 16 P3.5, 17 P3.6, 18 P3.7, 19 P2.3, 20 P2.4, 21 P1.0, 22 P1.1, 23 P1.2, 24 P1.3, 25 P1.4, 26 P1.5, 27 P1.6, 28 P1.7
text: /TA0.2/TDO/TDI; /TEST/SBWTCK; /TA0.1/TDI/TCLK; /Rosc/CA5; /TA0.0/TMS; /SMCLK/TCK; /TA0.2; /XOUT/CA7; /TA0.1; /XIN/CA6; /NMI/SBWTDIO; /TA0.0/TA1.0; /ACLK/A0/CA2; /TACLK/ADC10CLK; /CAOUT; /TAINCLK/SMCLK; /TA0.2/A4/VREF+; /A1/CA3; /VeREF+ /CA1; /TA0.0/A2/CA4; /TA0.1/A3/VREF-; /VeREF/CA0; /UCB0STE; /TA1.1/A7; /UCA0CLK/A5; /UCB0SIMO; /TA1.0/A6; /UCB0SDA; /UCB0SOMI; /UCA0RXD; /UCB0SCL; /UCA0SOMI; /UCB0CLK; /UCA0TXD; /UCA0STE; /UCA0SIMO

## MSP430F21X2RHB
designator U?
footprint QFN32
pins: 1 DVss (power), 2 XOUT/P2.7/CA7 (power), 3 XIN/P2.6/CA6 (power), 4 NC, 5 ~{RST}/NMI/SBWTDIO (power), 6 P2.0/ACLK/A0/CA2 (power), 7 P2.1/TAINCLK/SMCLK/A1/CA3 (power), 8 P2.2/TA0.0/A2/CA4/COUT (power), 9 P3.0/UCB0STE//UCA0CLK/A5 (power), 10 P3.1/UCB0SIMO/UCB0SDA (power), 11 P3.2/UCB0SOMI/UCBOSCL (power), 12 P3.3/UCB0CLK/UCA0STE (power), 13 P3.4/UCA0TXD /UCA0SIMO (power), 14 P3.5/UCA0RXD/UCA0SOMI (power), 15 P3.6/TA0.1/A6 (power), 16 P3.7/TA1.1/A7 (power), 17 NC (power), 18 P2.3/TA1.0/A3/VREF-/VeREF-/CA0 (power), 19 P2.4/TA2.0/A4/VREF+/VeREF+/CA1 (power), 20 NC (power), 21 P1.0/TACLK/ADC10CLK/CAOUT (power), 22 P1.1/TA0.0/TA0.1 (power), 23 P1.2/TA1.0 (power), 24 P1.3/TA2.0 (power), 25 P1.4/SMCLK/TCK, 26 P1.5/TA0/TMS, 27 P1.6/TA1/TDI, 28 P1.7/TA2.0/TDO/TDI, 29 TEST/SBWTCK, 30 DVCC, 31 NC, 32 P2.5/Rosc/CA5

## MSP430F22X2
designator U?
footprint R-PDSO-G38(DA)
pins: 1 TEST/SBWTCK, 2 DVCC, 3 P2.5/Rosc, 4 DVSS (power), 5 XOUT/P2.7 (power), 6 XIN/P2.6 (power), 7 ~{RST}/NMI/SBWTDIO (power), 8 P2.0/ACLK/A0 (power), 9 P2.1/TAINCLK/SMCLK/A1 (power), 10 P2.2/TA0/A2 (power), 11 P3.0/UCB0STE//UCA0CLK/A5 (power), 12 P3.1/UCB0SIMO/UCB0SDA (power), 13 P3.2/UCB0SOMI/UCB0SCL (power), 14 P3.3/UCB0CLK/UCA0STE (power), 15 AVSS (power), 16 AVCC (power), 17 P4.0/TB0 (power), 18 P4.1/TB1 (power), 19 P4.2/TB2 (power), 20 P4.3/TB0/A12 (power), 21 P4.4/TB1/A13 (power), 22 P4.5/TB2/A14 (power), 23 P4.6/TBOUTH/A15 (power), 24 P4.7/TBCLK (power), 25 P3.4/UCA0TXD /UCA0SIMO (power), 26 P3.5/UCA0RXD/UCA0SOMI (power), 27 P3.6/A6 (power), 28 P3.7/A7 (power), 29 P2.3/TA1/A3/VREF-/VeREF- (power), 30 P2.4/TA2/A4/VREF+/VeREF+ (power), 31 P1.0/TACLK/ADC10CLK (power), 32 P1.1/TA0 (power), 33 P1.2/TA1 (power), 34 P1.3/TA2 (power), 35 P1.4/SMCLK/TCK, 36 P1.5/TA0/TMS, 37 P1.6/TA1/TDI, 38 P1.7/TA2/TDO/TDI

## MSP430F22X2RHA
designator U?
footprint QFN40
pins: 1 DVSS (power), 2 XOUT/P2.7 (power), 3 XIN/P2.6 (power), 4 DVSS, 5 ~{RST}/NMI/SBWTDIO (power), 6 P2.0/ACLK/A0 (power), 7 P2.1/TAINCLK/SMCLK/A1 (power), 8 P2.2/TA0/A2 (power), 9 P3.0/UCB0STE//UCA0CLK/A5 (power), 10 P3.1/UCB0SIMO/UCB0SDA (power), 11 P3.2/UCB0SOMI (power), 12 P3.3/UCB0CLK (power), 13 AVSS (power), 14 AVCC (power), 15 P4.0/TB0 (power), 16 P4.1/TB1 (power), 17 P4.2/TB2 (power), 18 P4.3/TB0/A12 (power), 19 P4.4/TB1/A13 (power), 20 P4.5/TB2/A14 (power), 21 P4.6/TBOUTH/A15 (power), 22 P4.7/TBCLK (power), 23 P3.4/UCA0TXD /UCA0SIMO (power), 24 P3.5/UCA0RXD/UCA0SOMI (power), 25 P3.6/A6 (power), 26 P3.7/A7 (power), 27 P2.3/TA1/A3/VREF-/VeREF- (power), 28 P2.4/TA2/A4/VREF+/VeREF+ (power), 29 P1.0/TACLK/ADC10CLK (power), 30 P1.1/TA0 (power), 31 P1.2/TA1 (power), 32 P1.3/TA2 (power), 33 P1.4/SMCLK/TCK, 34 P1.5/TA0/TMS, 35 P1.6/TA1/TDI/TCK, 36 P1.7/TA2/TDO/TDI, 37 TEST/SBWTCK, 38 DVCC, 39 DVCC, 40 P2.5/Rosc

## MSP430F22X4
designator U?
footprint R-PDSO-G38(DA)
pins: 1 TEST/SBWTCK, 2 DVCC, 3 P2.5/Rosc, 4 DVSS (power), 5 XOUT/P2.7 (power), 6 XIN/P2.6 (power), 7 ~{RST}/NMI/SBWTDIO (power), 8 P2.0/ACLK/A0/OA0I0 (power), 9 P2.1/TAINCLK/SMCLK/A1/OA0O (power), 10 P2.2/TA0/A2/OA0I1 (power), 11 P3.0/UCB0STE//UCA0CLK/A5 (power), 12 P3.1/UCB0SIMO/UCB0SDA (power), 13 P3.2/UCB0SOMI/UCB0SCL (power), 14 P3.3/UCB0CLK/UCA0STE (power), 15 AVSS (power), 16 AVCC (power), 17 P4.0/TB0 (power), 18 P4.1/TB1 (power), 19 P4.2/TB2 (power), 20 P4.3/TB0/A12/OA0O (power), 21 P4.4/TB1/A13/OA1O (power), 22 P4.5/TB2/A14/OA0I3 (power), 23 P4.6/TBOUTH/A15/OA1I3 (power), 24 P4.7/TBCLK (power), 25 P3.4/UCA0TXD /UCA0SIMO (power), 26 P3.5/UCA0RXD/UCA0SOMI (power), 27 P3.6/A6/OA0I2 (power), 28 P3.7/A7/OA1I2 (power), 29 P2.3/TA 1/A3/VREF-/VeREF-/OA1I1/OA1O (power), 30 P2.4/TA 2/A4/VREF+/VeREF+/OA1I0 (power), 31 P1.0/TACLK/ADC10CLK (power), 32 P1.1/TA0 (power), 33 P1.2/TA1 (power), 34 P1.3/TA2 (power), 35 P1.4/MCLK/TCK, 36 1.5/TA0/TMS, 37 1.6/TA1/TDI, 38 P1.7/TA2/TDO/TDI

## MSP430F22X4RHA
designator U?
footprint QFN40
pins: 1 DVSS (power), 2 XOUT/P2.7 (power), 3 XIN/P2.6 (power), 4 DVSS (power), 5 ~{RST}/NMI/SBWTDIO (power), 6 P2.0/ACLK/A0/OA0I0 (power), 7 P2.1/TAINCLK/SMCLK/A1/OA0O (power), 8 P2.2/TA0/A2/OA0I1 (power), 9 P3.0/UCB0STE//UCA0CLK/A5 (power), 10 P3.1/UCB0SIMO/UCB0SDA (power), 11 P3.2/UCB0SOMI/UCB0SCL (power), 12 P3.3/UCB0CLK/UCA0STE (power), 13 AVSS (power), 14 AVCC (power), 15 P4.0/TB0 (power), 16 P4.1/TB1 (power), 17 P4.2/TB2 (power), 18 P4.3/TB0/A12/OA0O (power), 19 P4.4/TB1/A13/OA1O (power), 20 P4.5/TB2/A14/OA0I3 (power), 21 P4.6/TBOUTH/A15/OA1I3 (power), 22 P4.7/TBCLK (power), 23 P3.4/UCA0TXD /UCA0SIMO (power), 24 P3.5/UCA0RXD/UCA0SOMI (power), 25 P3.6/A6/OA0I2 (power), 26 P3.7/A7/OA1I2 (power), 27 P2.3/TA 1/A3/VREF-/VeREF-/OA1I1/OA1O (power), 28 P2.4/TA 2/A4/VREF+/VeREF+/OA1I0 (power), 29 P1.0/TACLK/ADC10CLK (power), 30 P1.1/TA 0 (power), 31 P1.2/TA1 (power), 32 P1.3/TA2 (power), 33 P1.4/SMCLK/TCK, 34 1.5/TA0/TMS, 35 1.6/TA1/TDI/TCLK, 36 P1.7/TA2/TDO/TDI, 37 TEST/SBWTCK, 38 DVCC, 39 DVCC, 40 P2.5/Rosc

## MSP430F23X
designator U?
footprint S-PQFP-G64
pins: 1 DVcc (power), 2 P6.3/A3 (power), 3 P6.4/A4 (power), 4 P6.5/A5 (power), 5 P6.6/A6 (power), 6 P6.7/A7/SVSIN (power), 7 VREF+ (power), 8 XIN (power), 9 XOUT (power), 10 VeREF+ (power), 11 VREF-/VeREF- (power), 12 P1.0/TACLK/CAOUT (power), 13 P1.1/TA0 (power), 14 P1.2/TA1 (power), 15 P1.3/TA2 (power), 16 P1.4/SMCLK (power), 17 P1.5/TA0 (power), 18 P1.6/TA1 (power), 19 P1.7/TA2 (power), 20 P2.0/ACLK/CA2 (power), 21 P2.1/TAINCLK/CA3 (power), 22 P2.2/CAOUT/TA0/CA4 (power), 23 P2.3/CA0/TA1 (power), 24 P2.4/CA1/TA2 (power), 25 P2.5/Rosc/CA5 (power), 26 P2.6/ADC12CLK/CA6 (power), 27 P2.7/TA0/CA7 (power), 28 P3.0/UCB0STE/UCA0CLK (power), 29 P3.1/UCB0SIMO/UCB0SDA (power), 30 P3.2/UCB0SOMI/UCB0SCL (power), 31 P3.3/UCB0CLK/UCA0STE (power), 32 P3.4/UCA0TXD/UCA0SIMO (power), 33 P3.5/UCA0RXD/UCA0SOMI (power), 34 P3.6 (power), 35 P3.7 (power), 36 P4.0/TB0 (power), 37 P4.1/TB1 (power), 38 P4.2/TB2 (power), 39 P4.3 (power), 40 P4.4 (power), 41 P4.5 (power), 42 P4.6 (power), 43 P4.7/TBCLK (power), 44 P5.0 (power), 45 P5.1 (power), 46 P5.2 (power), 47 P5.3 (power), 48 P5.4/MCLK (power), 49 P5.5/SMCLK (power), 50 P5.6/ACLK (power), 51 P5.7/TBoutH/SVSOUT (power), 52 XT2OUT (power), 53 XT2IN (power), 54 TDO/TDI (power), 55 TDI/TCLK (power), 56 TMS (power), 57 TCK (power), 58 ~{RS}T/NMI (power), 59 P6.0/A0 (power), 60 P6.1/A1 (power), 61 P6.2/A2 (power), 62 AVss (power), 63 DVss (power), 64 AVcc (power)

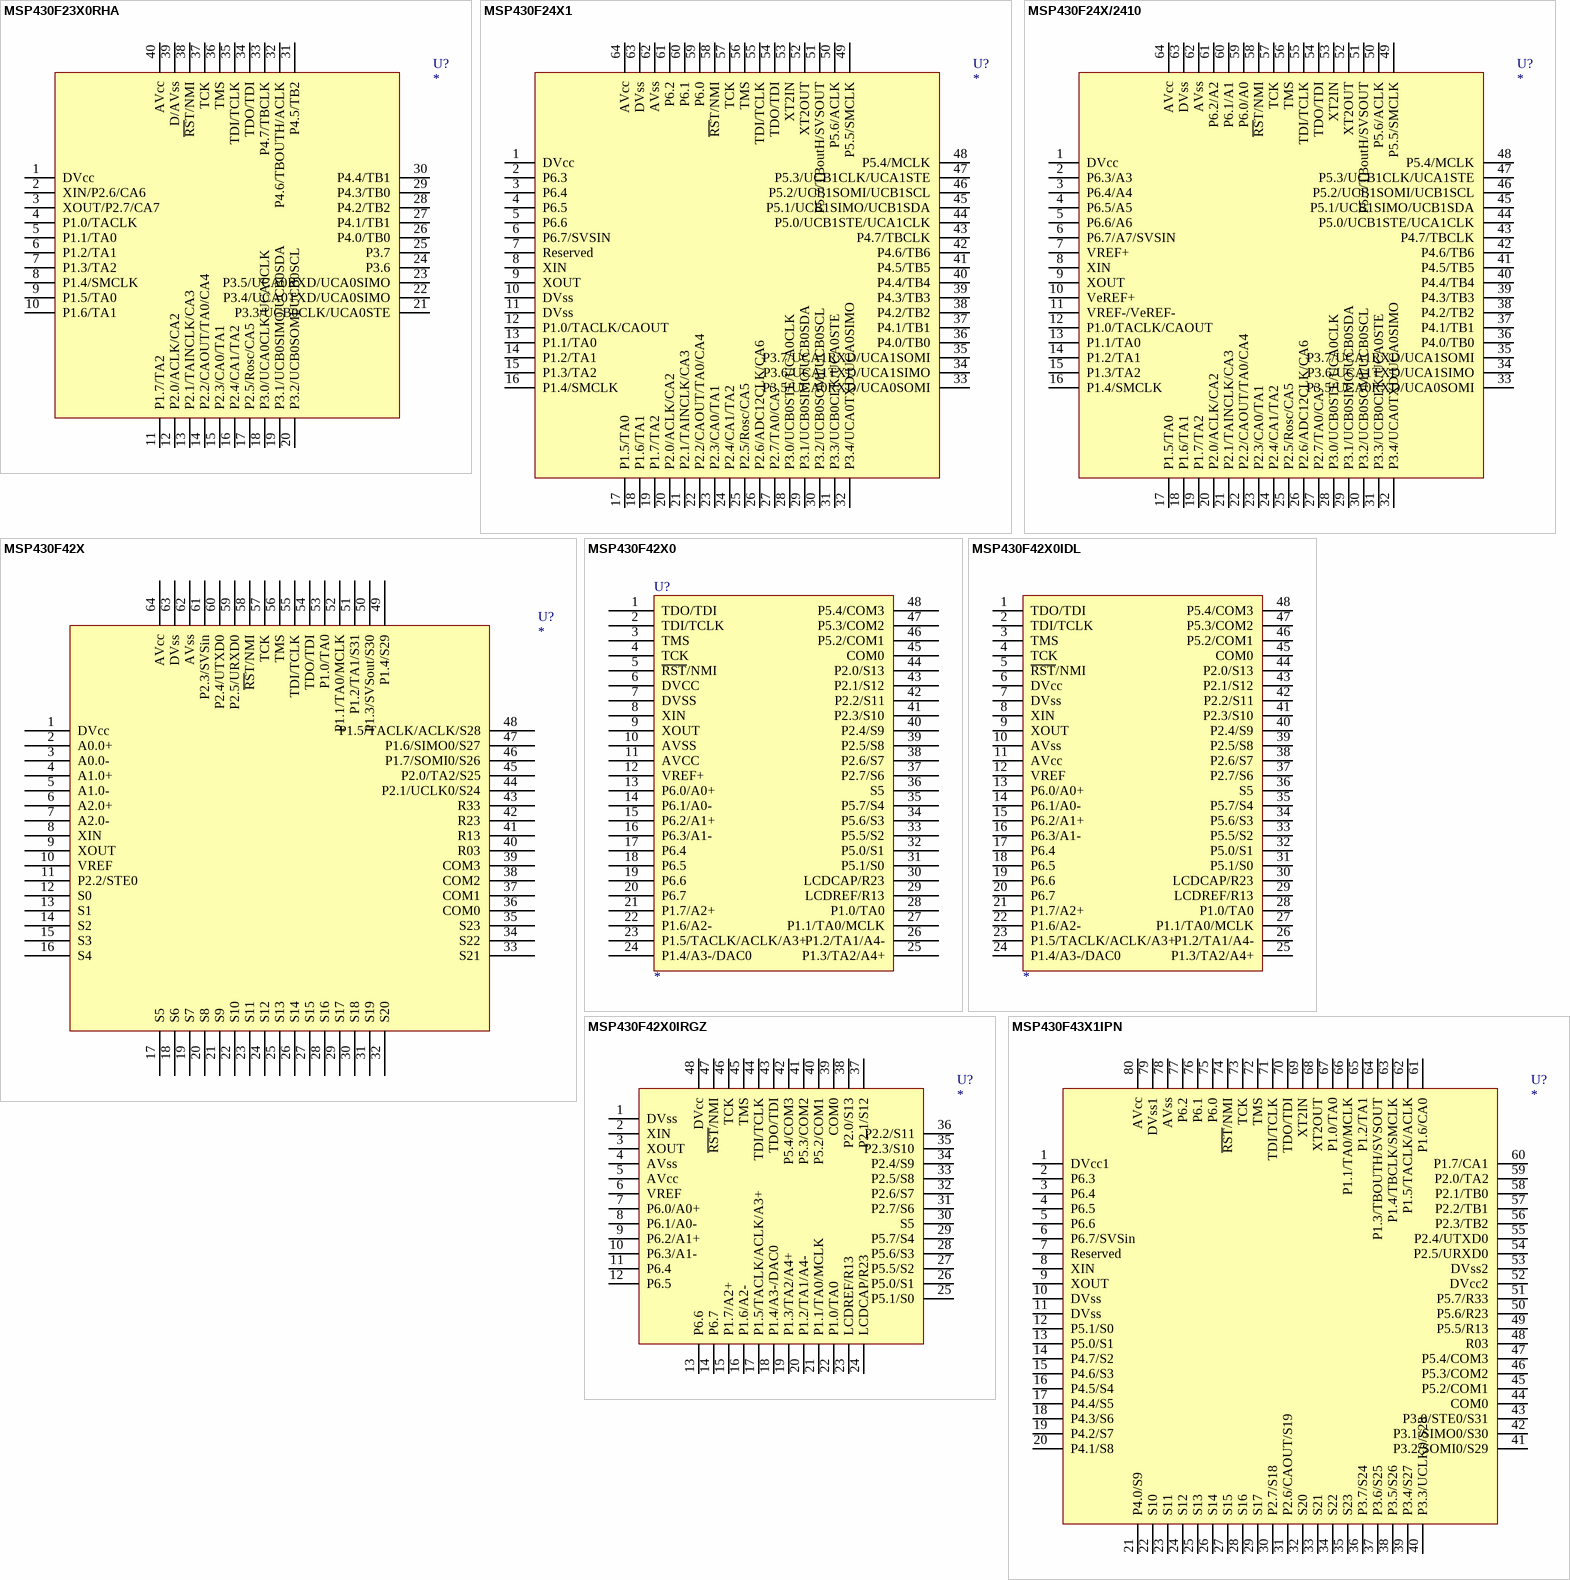
[diagram p5: symbols MSP430F23X0RHA to MSP430F43X1IPN]

## MSP430F23X0RHA
designator U?
footprint QFN40
pins: 1 DVcc (power), 2 XIN/P2.6/CA6 (power), 3 XOUT/P2.7/CA7 (power), 4 P1.0/TACLK (power), 5 P1.1/TA0 (power), 6 P1.2/TA1 (power), 7 P1.3/TA2 (power), 8 P1.4/SMCLK (power), 9 P1.5/TA0 (power), 10 P1.6/TA1 (power), 11 P1.7/TA2 (power), 12 P2.0/ACLK/CA2 (power), 13 P2.1/TAINCLK/CA3 (power), 14 P2.2/CAOUT/TA0/CA4 (power), 15 P2.3/CA0/TA1 (power), 16 P2.4/CA1/TA2 (power), 17 P2.5/Rosc/CA5 (power), 18 P3.0/UCA0CLK/UCA0CLK (power), 19 P3.1/UCB0SIMO/UCB0SDA (power), 20 P3.2/UCB0SOMI/UCB0SCL (power), 21 P3.3/UCB0CLK/UCA0STE (power), 22 P3.4/UCA0TXD/UCA0SIMO (power), 23 P3.5/UCA0RXD/UCA0SIMO (power), 24 P3.6 (power), 25 P3.7 (power), 26 P4.0/TB0 (power), 27 P4.1/TB1 (power), 28 P4.2/TB2 (power), 29 P4.3/TB0 (power), 30 P4.4/TB1 (power), 31 P4.5/TB2 (power), 32 P4.6/TBOUTH/ACLK (power), 33 P4.7/TBCLK, 34 TDO/TDI, 35 TDI/TCLK, 36 TMS, 37 TCK, 38 ~{RS}T/NMI, 39 D/AVss, 40 AVcc

## MSP430F24X1
designator U?
footprint S-PQFP-G64
pins: 1 DVcc (power), 2 P6.3 (power), 3 P6.4 (power), 4 P6.5 (power), 5 P6.6 (power), 6 P6.7/SVSIN (power), 7 Reserved (power), 8 XIN (power), 9 XOUT (power), 10 DVss (power), 11 DVss (power), 12 P1.0/TACLK/CAOUT (power), 13 P1.1/TA0 (power), 14 P1.2/TA1 (power), 15 P1.3/TA2 (power), 16 P1.4/SMCLK (power), 17 P1.5/TA0 (power), 18 P1.6/TA1 (power), 19 P1.7/TA2 (power), 20 P2.0/ACLK/CA2 (power), 21 P2.1/TAINCLK/CA3 (power), 22 P2.2/CAOUT/TA0/CA4 (power), 23 P2.3/CA0/TA1 (power), 24 P2.4/CA1/TA2 (power), 25 P2.5/Rosc/CA5 (power), 26 P2.6/ADC12CLK/CA6 (power), 27 P2.7/TA0/CA7 (power), 28 P3.0/UCB0STE/UCA0CLK (power), 29 P3.1/UCB0SIMO/UCB0SDA (power), 30 P3.2/UCB0SOMI/UCB0SCL (power), 31 P3.3/UCB0CLK/UCA0STE (power), 32 P3.4/UCA0TXD/UCA0SIMO (power), 33 P3.5/UCA0RXD/UCA0SOMI (power), 34 P3.6/UCA1TXD/UCA1SIMO (power), 35 P3.7/UCA1RXD/UCA1SOMI (power), 36 P4.0/TB0 (power), 37 P4.1/TB1 (power), 38 P4.2/TB2 (power), 39 P4.3/TB3 (power), 40 P4.4/TB4 (power), 41 P4.5/TB5 (power), 42 P4.6/TB6 (power), 43 P4.7/TBCLK (power), 44 P5.0/UCB1STE/UCA1CLK (power), 45 P5.1/UCB1SIMO/UCB1SDA (power), 46 P5.2/UCB1SOMI/UCB1SCL (power), 47 P5.3/UCB1CLK/UCA1STE (power), 48 P5.4/MCLK (power), 49 P5.5/SMCLK (power), 50 P5.6/ACLK (power), 51 P5.7/TBoutH/SVSOUT (power), 52 XT2OUT (power), 53 XT2IN (power), 54 TDO/TDI (power), 55 TDI/TCLK (power), 56 TMS (power), 57 TCK (power), 58 ~{RS}T/NMI (power), 59 P6.0 (power), 60 P6.1 (power), 61 P6.2 (power), 62 AVss (power), 63 DVss (power), 64 AVcc (power)